# Altium schematic symbol library dungvh03-CERN_Logic.SchLib: 486 symbols (part 3 of 54)
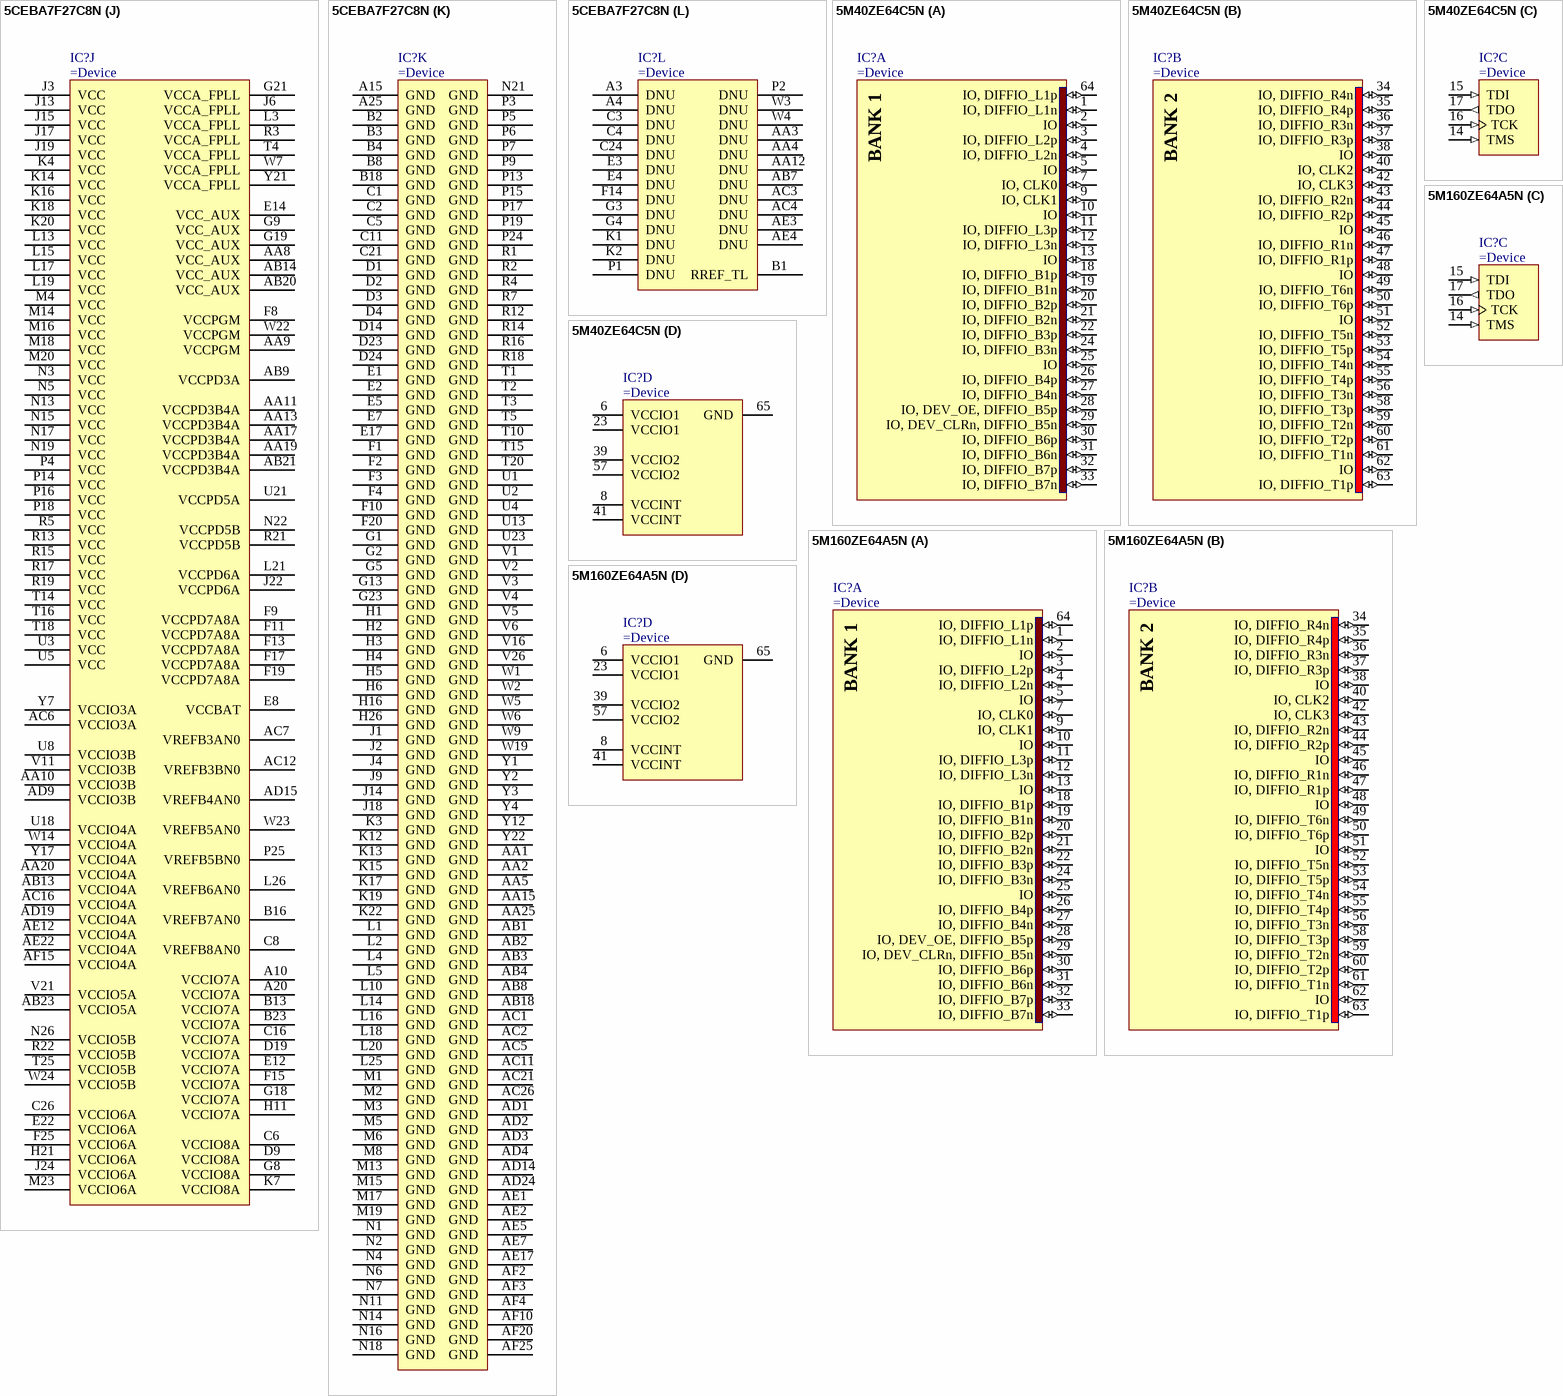
[diagram p263: symbols 5CEBA7F27C8N to 5M160ZE64A5N]

## 5CEBA7F27C8N
designator IC?
Cyclone V E Family FPGA, 1.07 to 1.13 V Supply, 336 I/O Pins, 7 PLLs, 672-Pin FBGA, Speed Grade 8, Commercial Grade, RoHS Compliant
footprint ALTR-FBGA672_A-200 (BGA, 672-Balls, Body 27x27mm, Pitch 1mm)
part A pins: AA6 IO, DATA11, (DIFFIO_TX_B4p, DIFFOUT_B4p) (io), AA7 IO, DATA13, (DIFFIO_TX_B6n, DIFFOUT_B6n, DQ1B) (io), AB6 IO, DATA9, (DIFFIO_TX_B4n, DIFFOUT_B4n, DQ1B) (io), AD6 IO, PR_READY, (DIFFIO_TX_B8n, DIFFOUT_B8n, DQ1B) (io), AD7 IO, (DIFFIO_TX_B8p, DIFFOUT_B8p, DQ1B) (io), P8 IO, PR_ERROR, (DIFFIO_RX_B7p, DIFFOUT_B7p) (io), R8 IO, PR_DONE, (DIFFIO_RX_B7n, DIFFOUT_B7n) (io), R9 IO, CLKUSR, (DIFFIO_RX_B5p, DIFFOUT_B5p, DQ1B) (io), R10 IO, DATA14, (DIFFIO_RX_B5n, DIFFOUT_B5n, DQ1B) (io), T7 IO, DATA6, (DIFFIO_RX_B1n, DIFFOUT_B1n, DQ1B) (io), T8 IO, DATA8, (DIFFIO_RX_B1p, DIFFOUT_B1p, DQ1B) (io), U7 IO, DATA5, (DIFFIO_TX_B2n, DIFFOUT_B2n) (io), V8 IO, DATA7, (DIFFIO_TX_B2p, DIFFOUT_B2p, DQ1B) (io), W8 IO, DATA10, (DIFFIO_RX_B3n, DIFFOUT_B3n, DQSn1B) (io), Y8 IO, DATA15, (DIFFIO_TX_B6p, DIFFOUT_B6p, DQ1B) (io), Y9 IO, DATA12, (DIFFIO_RX_B3p, DIFFOUT_B3p, DQS1B) (io)
part B pins: AB10 IO, (DIFFIO_TX_B28p, DIFFOUT_B28p) (io), AB11 IO, (DIFFIO_RX_B30n, DIFFOUT_B30n, DQ2B) (io), AB12 IO, (DIFFIO_RX_B30p, DIFFOUT_B30p, DQ2B) (io), AC8 IO, (DIFFIO_TX_B29n, DIFFOUT_B29n, DQ2B) (io), AC9 IO, (DIFFIO_TX_B29p, DIFFOUT_B29p, DQ2B) (io), AC10 IO, (DIFFIO_TX_B28n, DIFFOUT_B28n, DQ2B) (io), AD8 IO, (DIFFIO_RX_B34p, DIFFOUT_B34p, DQ3B) (io), AE6 IO, (DIFFIO_TX_B40p, DIFFOUT_B40p, DQ3B) (io), AE8 IO, (DIFFIO_RX_B34n, DIFFOUT_B34n, DQ3B) (io), AE9 IO, (DIFFIO_TX_B36p, DIFFOUT_B36p) (io), AF6 IO, (DIFFIO_TX_B40n, DIFFOUT_B40n, DQ3B) (io), AF7 IO, FPLL_BL_CLKOUT0, FPLL_BL_CLKOUTp, FPLL_BL_FB, (DIFFIO_TX_B37p, DIFFOUT_B37p, DQ3B) (io), AF8 IO, FPLL_BL_CLKOUT1, FPLL_BL_CLKOUTn, (DIFFIO_TX_B37n, DIFFOUT_B37n, DQ3B) (io), AF9 IO, (DIFFIO_TX_B36n, DIFFOUT_B36n, DQ3B) (io), N10 IO, (DIFFIO_RX_B35p, DIFFOUT_B35p, DQS3B) (io), P10 IO, (DIFFIO_RX_B35n, DIFFOUT_B35n, DQSn3B) (io), P11 IO, CLK1p, (DIFFIO_RX_B39p, DIFFOUT_B39p) (io), P12 IO, CLK1n, (DIFFIO_RX_B39n, DIFFOUT_B39n) (io), R11 IO, (DIFFIO_RX_B27p, DIFFOUT_B27p, DQS2B) (io), T9 IO, (DIFFIO_TX_B25p, DIFFOUT_B25p, DQ2B) (io), T11 IO, (DIFFIO_RX_B27n, DIFFOUT_B27n, DQSn2B) (io), T12 IO, CLK0n, FPLL_BL_FBn, (DIFFIO_RX_B31n, DIFFOUT_B31n) (io), T13 IO, CLK0p, FPLL_BL_FBp, (DIFFIO_RX_B31p, DIFFOUT_B31p) (io), U9 IO, (DIFFIO_TX_B25n, DIFFOUT_B25n) (io), U10 IO, (DIFFIO_RX_B38p, DIFFOUT_B38p, DQ3B) (io), U11 IO, (DIFFIO_RX_B38n, DIFFOUT_B38n, DQ3B) (io), V9 IO, (DIFFIO_TX_B33n, DIFFOUT_B33n) (io), V10 IO, (DIFFIO_TX_B33p, DIFFOUT_B33p, DQ3B) (io), W10 IO, (DIFFIO_TX_B32p, DIFFOUT_B32p, DQ2B) (io), W11 IO, (DIFFIO_RX_B26p, DIFFOUT_B26p, DQ2B) (io), Y10 IO, (DIFFIO_TX_B32n, DIFFOUT_B32n, DQ2B) (io), Y11 IO, (DIFFIO_RX_B26n, DIFFOUT_B26n, DQ2B) (io)
part C pins: AA14 IO, (DIFFIO_RX_B42n, DIFFOUT_B42n, DQ4B) (io), AA16 IO, (DIFFIO_RX_B54p, DIFFOUT_B54p, DQ5B, DQ1B) (io), AA18 IO, (DIFFIO_RX_B74n, DIFFOUT_B74n, DQ8B, DQ2B) (io), AA21 IO, (DIFFIO_TX_B80n, DIFFOUT_B80n, DQ8B, DQ2B) (io), AB15 IO, (DIFFIO_RX_B50p, DIFFOUT_B50p, DQ5B, DQ1B) (io), AB16 IO, (DIFFIO_RX_B54n, DIFFOUT_B54n, DQ5B, DQ1B) (io), AB17 IO, (DIFFIO_RX_B62p, DIFFOUT_B62p, DQ6B, DQ1B) (io), AB19 IO, (DIFFIO_TX_B77p, DIFFOUT_B77p, DQ8B, DQ2B) (io), AB22 IO, (DIFFIO_TX_B80p, DIFFOUT_B80p, DQ8B, DQ2B) (io), AC13 IO, (DIFFIO_TX_B49n, DIFFOUT_B49n) (io), AC14 IO, (DIFFIO_TX_B49p, DIFFOUT_B49p, DQ5B, DQ1B) (io), AC15 IO, (DIFFIO_RX_B50n, DIFFOUT_B50n, DQ5B, DQ1B) (io), AC17 IO, (DIFFIO_RX_B62n, DIFFOUT_B62n, DQ6B, DQ1B) (io), AC18 IO, (DIFFIO_TX_B57p, DIFFOUT_B57p, DQ6B, DQ1B) (io), AC19 IO, (DIFFIO_TX_B77n, DIFFOUT_B77n, DQ8B, DQ2B) (io), AC20 IO, (DIFFIO_TX_B65p, DIFFOUT_B65p, DQ7B, DQ2B) (io), AD10 IO, (DIFFIO_TX_B45p, DIFFOUT_B45p, DQ4B) (io), AD11 IO, (DIFFIO_TX_B41p, DIFFOUT_B41p, DQ4B) (io), AD12 IO, (DIFFIO_TX_B44n, DIFFOUT_B44n, DQ4B) (io), AD13 IO, (DIFFIO_TX_B44p, DIFFOUT_B44p) (io), AD16 IO, (DIFFIO_RX_B58n, DIFFOUT_B58n, DQ6B, DQ1B) (io), AD17 IO, (DIFFIO_RX_B58p, DIFFOUT_B58p, DQ6B, DQ1B) (io), AD18 IO, (DIFFIO_TX_B57n, DIFFOUT_B57n) (io), AD20 IO, (DIFFIO_TX_B65n, DIFFOUT_B65n) (io), AD21 IO, (DIFFIO_TX_B68n, DIFFOUT_B68n, DQ7B, DQ2B) (io), AD22 IO, (DIFFIO_TX_B68p, DIFFOUT_B68p) (io), AD23 IO, (DIFFIO_TX_B69p, DIFFOUT_B69p, DQ7B, DQ2B) (io), AD26 IO, (DIFFIO_TX_B76p, DIFFOUT_B76p) (io), AE10 IO, (DIFFIO_TX_B45n, DIFFOUT_B45n, DQ4B) (io), AE11 IO, RZQ_0, (DIFFIO_TX_B41n, DIFFOUT_B41n) (io), AE13 IO, (DIFFIO_TX_B52p, DIFFOUT_B52p) (io), AE14 IO, (DIFFIO_TX_B53p, DIFFOUT_B53p, DQ5B, DQ1B) (io), AE15 IO, (DIFFIO_RX_B66n, DIFFOUT_B66n, DQ7B, DQ2B) (io), AE16 IO, (DIFFIO_RX_B66p, DIFFOUT_B66p, DQ7B, DQ2B) (io), AE18 IO, (DIFFIO_TX_B56p, DIFFOUT_B56p, DQ5B, DQ1B) (io), AE19 IO, (DIFFIO_TX_B60p, DIFFOUT_B60p) (io), AE20 IO, (DIFFIO_TX_B64p, DIFFOUT_B64p, DQ6B, DQ1B) (io), AE21 IO, (DIFFIO_TX_B64n, DIFFOUT_B64n, DQ6B, DQ1B) (io), AE23 IO, (DIFFIO_TX_B69n, DIFFOUT_B69n, DQ7B, DQ2B) (io), AE24 IO, (DIFFIO_TX_B72p, DIFFOUT_B72p, DQ7B, DQ2B) (io), AE25 IO, (DIFFIO_TX_B73p, DIFFOUT_B73p, DQ8B, DQ2B) (io), AE26 IO, (DIFFIO_TX_B76n, DIFFOUT_B76n, DQ8B, DQ2B) (io), AF11 IO, (DIFFIO_TX_B48p, DIFFOUT_B48p, DQ4B) (io), AF12 IO, (DIFFIO_TX_B48n, DIFFOUT_B48n, DQ4B) (io), AF13 IO, (DIFFIO_TX_B52n, DIFFOUT_B52n, DQ5B, DQ1B) (io), AF14 IO, (DIFFIO_TX_B53n, DIFFOUT_B53n, DQ5B, DQ1B) (io), AF16 IO, (DIFFIO_RX_B70n, DIFFOUT_B70n, DQ7B, DQ2B) (io), AF17 IO, (DIFFIO_RX_B70p, DIFFOUT_B70p, DQ7B, DQ2B) (io), AF18 IO, (DIFFIO_TX_B56n, DIFFOUT_B56n, DQ5B, DQ1B) (io), AF19 IO, (DIFFIO_TX_B60n, DIFFOUT_B60n, DQ6B, DQ1B) (io), AF21 IO, (DIFFIO_TX_B61p, DIFFOUT_B61p, DQ6B, DQ1B) (io), AF22 IO, (DIFFIO_TX_B61n, DIFFOUT_B61n, DQ6B, DQ1B) (io), AF23 IO, (DIFFIO_TX_B72n, DIFFOUT_B72n, DQ7B, DQ2B) (io), AF24 IO, (DIFFIO_TX_B73n, DIFFOUT_B73n) (io), T17 IO, (DIFFIO_RX_B63p, DIFFOUT_B63p) (io), U12 IO, CLK2p, (DIFFIO_RX_B47p, DIFFOUT_B47p) (io), U14 IO, (DIFFIO_RX_B51p, DIFFOUT_B51p, DQS5B, DQ1B) (io), U15 IO, (DIFFIO_RX_B71p, DIFFOUT_B71p) (io), U16 IO, (DIFFIO_RX_B71n, DIFFOUT_B71n) (io), U17 IO, (DIFFIO_RX_B63n, DIFFOUT_B63n) (io), V12 IO, CLK2n, (DIFFIO_RX_B47n, DIFFOUT_B47n) (io), V13 IO, (DIFFIO_RX_B43p, DIFFOUT_B43p, DQS4B) (io), V14 IO, (DIFFIO_RX_B51n, DIFFOUT_B51n, DQSn5B, DQ1B) (io), V15 IO, (DIFFIO_RX_B59p, DIFFOUT_B59p, DQS6B, DQS1B) (io), V17 IO, (DIFFIO_RX_B75n, DIFFOUT_B75n, DQSn8B, DQSn2B) (io), V18 IO, (DIFFIO_RX_B75p, DIFFOUT_B75p, DQS8B, DQS2B) (io), V19 IO, (DIFFIO_RX_B79p, DIFFOUT_B79p) (io), W12 IO, (DIFFIO_RX_B46p, DIFFOUT_B46p, DQ4B) (io), W13 IO, (DIFFIO_RX_B43n, DIFFOUT_B43n, DQSn4B) (io), W15 IO, (DIFFIO_RX_B59n, DIFFOUT_B59n, DQSn6B, DQSn1B) (io), W16 IO, (DIFFIO_RX_B67p, DIFFOUT_B67p, DQS7B, DQ2B) (io), W17 IO, (DIFFIO_RX_B67n, DIFFOUT_B67n, DQSn7B, DQ2B) (io), W18 IO, (DIFFIO_RX_B79n, DIFFOUT_B79n) (io), Y13 IO, (DIFFIO_RX_B46n, DIFFOUT_B46n, DQ4B) (io), Y14 IO, (DIFFIO_RX_B42p, DIFFOUT_B42p, DQ4B) (io), Y15 IO, CLK3p, (DIFFIO_RX_B55p, DIFFOUT_B55p) (io), Y16 IO, CLK3n, (DIFFIO_RX_B55n, DIFFOUT_B55n) (io), Y18 IO, (DIFFIO_RX_B74p, DIFFOUT_B74p, DQ8B, DQ2B) (io), Y19 IO, (DIFFIO_RX_B78n, DIFFOUT_B78n, DQ8B, DQ2B) (io), Y20 IO, (DIFFIO_RX_B78p, DIFFOUT_B78p, DQ8B, DQ2B) (io)
part D pins: AA22 IO, nCEO, (DIFFIO_TX_R3p, DIFFOUT_R3p, DQ1R) (io), AA23 IO, CvP_CONFDONE, (DIFFIO_TX_R3n, DIFFOUT_R3n, DQ1R) (io), AB24 IO, DEV_CLRn, (DIFFIO_TX_R5n, DIFFOUT_R5n, DQ1R) (io), AC22 IO, RZQ_1, (DIFFIO_TX_R1p, DIFFOUT_R1p, DQ1R) (io), AC23 IO, PR_REQUEST, (DIFFIO_TX_R1n, DIFFOUT_R1n, DQ1R) (io), AC24 IO, DEV_OE, (DIFFIO_TX_R5p, DIFFOUT_R5p) (io), T19 IO, (DIFFIO_RX_R8p, DIFFOUT_R8p, DQ1R) (io), U19 IO, INIT_DONE, (DIFFIO_RX_R2p, DIFFOUT_R2p) (io), U20 IO, (DIFFIO_RX_R8n, DIFFOUT_R8n, DQ1R) (io), U22 IO, nPERSTL1, (DIFFIO_RX_R6n, DIFFOUT_R6n, DQSn1R) (io), V20 IO, CRC_ERROR, (DIFFIO_RX_R2n, DIFFOUT_R2n) (io), V22 IO, nPERSTL0, (DIFFIO_RX_R6p, DIFFOUT_R6p, DQS1R) (io), W20 IO, (DIFFIO_RX_R4p, DIFFOUT_R4p, DQ1R) (io), W21 IO, (DIFFIO_RX_R4n, DIFFOUT_R4n, DQ1R) (io), Y23 IO, (DIFFIO_TX_R7p, DIFFOUT_R7p, DQ1R) (io), Y24 IO, (DIFFIO_TX_R7n, DIFFOUT_R7n) (io)
part E pins: AA24 IO, (DIFFIO_TX_R28p, DIFFOUT_R28p, DQ2R) (io), AA26 IO, (DIFFIO_TX_R34n, DIFFOUT_R34n, DQ3R) (io), AB25 IO, (DIFFIO_TX_R28n, DIFFOUT_R28n, DQ2R) (io), AB26 IO, (DIFFIO_TX_R34p, DIFFOUT_R34p, DQ3R) (io), AC25 IO, (DIFFIO_TX_R30n, DIFFOUT_R30n, DQ2R) (io), AD25 IO, (DIFFIO_TX_R30p, DIFFOUT_R30p) (io), N25 IO, (DIFFIO_RX_R39p, DIFFOUT_R39p, DQ3R) (io), P20 IO, CLK6n, (DIFFIO_RX_R33n, DIFFOUT_R33n) (io), P21 IO, (DIFFIO_RX_R37p, DIFFOUT_R37p, DQS3R) (io), P22 IO, (DIFFIO_RX_R37n, DIFFOUT_R37n, DQSn3R) (io), P23 IO, (DIFFIO_RX_R29n, DIFFOUT_R29n, DQSn2R) (io), P26 IO, (DIFFIO_RX_R39n, DIFFOUT_R39n, DQ3R) (io), R20 IO, CLK6p, (DIFFIO_RX_R33p, DIFFOUT_R33p) (io), R23 IO, (DIFFIO_RX_R29p, DIFFOUT_R29p, DQS2R) (io), R24 IO, (DIFFIO_RX_R31p, DIFFOUT_R31p, DQ2R) (io), R25 IO, (DIFFIO_RX_R31n, DIFFOUT_R31n, DQ2R) (io), R26 IO, (DIFFIO_RX_R35n, DIFFOUT_R35n, DQ3R) (io), T21 IO, CLK7p, FPLL_BR_FBp, (DIFFIO_RX_R25p, DIFFOUT_R25p) (io), T22 IO, CLK7n, FPLL_BR_FBn, (DIFFIO_RX_R25n, DIFFOUT_R25n) (io), T23 IO, (DIFFIO_RX_R27p, DIFFOUT_R27p, DQ2R) (io), T24 IO, (DIFFIO_RX_R27n, DIFFOUT_R27n, DQ2R) (io), T26 IO, (DIFFIO_RX_R35p, DIFFOUT_R35p, DQ3R) (io), U24 IO, (DIFFIO_TX_R32p, DIFFOUT_R32p, DQ2R) (io), U25 IO, (DIFFIO_TX_R40p, DIFFOUT_R40p, DQ3R) (io), U26 IO, (DIFFIO_TX_R40n, DIFFOUT_R40n) (io), V23 IO, (DIFFIO_TX_R26p, DIFFOUT_R26p, DQ2R) (io), V24 IO, (DIFFIO_TX_R26n, DIFFOUT_R26n, DQ2R) (io), V25 IO, (DIFFIO_TX_R32n, DIFFOUT_R32n) (io), W25 IO, (DIFFIO_TX_R38p, DIFFOUT_R38p) (io), W26 IO, (DIFFIO_TX_R38n, DIFFOUT_R38n, DQ3R) (io), Y25 IO, FPLL_BR_CLKOUT0, FPLL_BR_CLKOUTp, FPLL_BR_FB, (DIFFIO_TX_R36p, DIFFOUT_R36p, DQ3R) (io), Y26 IO, FPLL_BR_CLKOUT1, FPLL_BR_CLKOUTn, (DIFFIO_TX_R36n, DIFFOUT_R36n, DQ3R) (io)
part F pins: B25 IO, (DIFFIO_TX_R66p, DIFFOUT_R66p, DQ6R) (io), B26 IO, (DIFFIO_TX_R66n, DIFFOUT_R66n, DQ6R) (io), C25 IO, (DIFFIO_TX_R68n, DIFFOUT_R68n, DQ6R) (io), D22 IO, (DIFFIO_TX_R70p, DIFFOUT_R70p) (io), D25 IO, (DIFFIO_TX_R68p, DIFFOUT_R68p, DQ6R) (io), D26 IO, (DIFFIO_TX_R48p, DIFFOUT_R48p, DQ4R) (io), E21 IO, (DIFFIO_TX_R72p, DIFFOUT_R72p, DQ6R) (io), E23 IO, (DIFFIO_TX_R70n, DIFFOUT_R70n, DQ6R) (io), E24 IO, (DIFFIO_TX_R50p, DIFFOUT_R50p, DQ5R) (io), E25 IO, (DIFFIO_TX_R50n, DIFFOUT_R50n, DQ5R) (io), E26 IO, (DIFFIO_TX_R48n, DIFFOUT_R48n) (io), F21 IO, (DIFFIO_RX_R71n, DIFFOUT_R71n, DQ6R) (io), F22 IO, (DIFFIO_TX_R72n, DIFFOUT_R72n) (io), F23 IO, (DIFFIO_TX_R56p, DIFFOUT_R56p, DQ5R) (io), F24 IO, (DIFFIO_TX_R52p, DIFFOUT_R52p, DQ5R) (io), F26 IO, FPLL_TR_CLKOUT0, FPLL_TR_CLKOUTp, FPLL_TR_FB, (DIFFIO_TX_R44p, DIFFOUT_R44p, DQ4R) (io), G20 IO, (DIFFIO_RX_R71p, DIFFOUT_R71p, DQ6R) (io), G22 IO, (DIFFIO_TX_R56n, DIFFOUT_R56n) (io), G24 IO, (DIFFIO_TX_R52n, DIFFOUT_R52n, DQ5R) (io), G25 IO, (DIFFIO_TX_R46p, DIFFOUT_R46p) (io), G26 IO, FPLL_TR_CLKOUT1, FPLL_TR_CLKOUTn, (DIFFIO_TX_R44n, DIFFOUT_R44n, DQ4R) (io), H19 IO, (DIFFIO_RX_R67p, DIFFOUT_R67p, DQ6R) (io), H20 IO, (DIFFIO_RX_R67n, DIFFOUT_R67n, DQ6R) (io), H22 IO, (DIFFIO_RX_R55p, DIFFOUT_R55p, DQ5R) (io), H23 IO, (DIFFIO_TX_R54p, DIFFOUT_R54p) (io), H24 IO, (DIFFIO_TX_R54n, DIFFOUT_R54n, DQ5R) (io), H25 IO, (DIFFIO_TX_R46n, DIFFOUT_R46n, DQ4R) (io), J20 IO, (DIFFIO_RX_R69p, DIFFOUT_R69p, DQS6R) (io), J21 IO, (DIFFIO_RX_R69n, DIFFOUT_R69n, DQSn6R) (io), J23 IO, (DIFFIO_RX_R55n, DIFFOUT_R55n, DQ5R) (io), J25 IO, (DIFFIO_TX_R42p, DIFFOUT_R42p, DQ4R) (io), J26 IO, (DIFFIO_TX_R42n, DIFFOUT_R42n, DQ4R) (io), K21 IO, (DIFFIO_RX_R65n, DIFFOUT_R65n) (io), K23 IO, (DIFFIO_RX_R51n, DIFFOUT_R51n, DQ5R) (io), K24 IO, (DIFFIO_RX_R51p, DIFFOUT_R51p, DQ5R) (io), K25 IO, CLK4p, FPLL_TR_FBp, (DIFFIO_RX_R49p, DIFFOUT_R49p) (io), K26 IO, CLK4n, FPLL_TR_FBn, (DIFFIO_RX_R49n, DIFFOUT_R49n) (io), L22 IO, (DIFFIO_RX_R65p, DIFFOUT_R65p) (io), L23 IO, (DIFFIO_RX_R53p, DIFFOUT_R53p, DQS5R) (io), L24 IO, (DIFFIO_RX_R53n, DIFFOUT_R53n, DQSn5R) (io), M21 IO, CLK5n, (DIFFIO_RX_R41n, DIFFOUT_R41n) (io), M22 IO, (DIFFIO_RX_R45n, DIFFOUT_R45n, DQSn4R) (io), M24 IO, (DIFFIO_RX_R43n, DIFFOUT_R43n, DQ4R) (io), M25 IO, (DIFFIO_RX_R47p, DIFFOUT_R47p, DQ4R) (io), M26 IO, (DIFFIO_RX_R47n, DIFFOUT_R47n, DQ4R) (io), N20 IO, CLK5p, (DIFFIO_RX_R41p, DIFFOUT_R41p) (io), N23 IO, (DIFFIO_RX_R45p, DIFFOUT_R45p, DQS4R) (io), N24 IO, (DIFFIO_RX_R43p, DIFFOUT_R43p, DQ4R) (io)
part G pins: A8 IO, (DIFFIO_TX_T24p, DIFFOUT_T24p, DQ3T, DQ2T) (io), A9 IO, (DIFFIO_TX_T24n, DIFFOUT_T24n) (io), A11 IO, (DIFFIO_TX_T30n, DIFFOUT_T30n, DQ4T, DQ2T) (io), A12 IO, (DIFFIO_TX_T36p, DIFFOUT_T36p, DQ5T) (io), A13 IO, (DIFFIO_TX_T34n, DIFFOUT_T34n, DQ5T) (io), A14 IO, (DIFFIO_TX_T20p, DIFFOUT_T20p, DQ3T, DQ2T) (io), A16 IO, (DIFFIO_TX_T16n, DIFFOUT_T16n) (io), A17 IO, (DIFFIO_TX_T16p, DIFFOUT_T16p, DQ2T, DQ1T) (io), A18 IO, (DIFFIO_TX_T14n, DIFFOUT_T14n, DQ2T, DQ1T) (io), A19 IO, (DIFFIO_TX_T14p, DIFFOUT_T14p) (io), A21 IO, (DIFFIO_TX_T6n, DIFFOUT_T6n, DQ1T, DQ1T) (io), A22 IO, (DIFFIO_TX_T4n, DIFFOUT_T4n, DQ1T, DQ1T) (io), A23 IO, (DIFFIO_TX_T4p, DIFFOUT_T4p, DQ1T, DQ1T) (io), A24 IO, (DIFFIO_RX_T3n, DIFFOUT_T3n, DQ1T, DQ1T) (io), B9 IO, (DIFFIO_TX_T26n, DIFFOUT_T26n, DQ4T, DQ2T) (io), B10 IO, (DIFFIO_TX_T30p, DIFFOUT_T30p) (io), B11 IO, (DIFFIO_TX_T36n, DIFFOUT_T36n, DQ5T) (io), B12 IO, (DIFFIO_TX_T34p, DIFFOUT_T34p, DQ5T) (io), B14 IO, (DIFFIO_TX_T20n, DIFFOUT_T20n, DQ3T, DQ2T) (io), B15 IO, (DIFFIO_TX_T22p, DIFFOUT_T22p) (io), B17 IO, (DIFFIO_TX_T18n, DIFFOUT_T18n, DQ3T, DQ2T) (io), B19 IO, (DIFFIO_TX_T10n, DIFFOUT_T10n, DQ2T, DQ1T) (io), B20 IO, (DIFFIO_TX_T8n, DIFFOUT_T8n) (io), B21 IO, (DIFFIO_TX_T8p, DIFFOUT_T8p, DQ1T, DQ1T) (io), B22 IO, (DIFFIO_TX_T6p, DIFFOUT_T6p) (io), B24 IO, (DIFFIO_RX_T3p, DIFFOUT_T3p, DQ1T, DQ1T) (io), C9 IO, (DIFFIO_TX_T26p, DIFFOUT_T26p, DQ4T, DQ2T) (io), C10 IO, (DIFFIO_TX_T28n, DIFFOUT_T28n, DQ4T, DQ2T) (io), C12 IO, (DIFFIO_TX_T38n, DIFFOUT_T38n, DQ5T) (io), C13 IO, (DIFFIO_TX_T38p, DIFFOUT_T38p) (io), C14 IO, (DIFFIO_RX_T23p, DIFFOUT_T23p, DQ3T, DQ2T) (io), C15 IO, (DIFFIO_TX_T22n, DIFFOUT_T22n, DQ3T, DQ2T) (io), C17 IO, (DIFFIO_TX_T18p, DIFFOUT_T18p, DQ3T, DQ2T) (io), C18 IO, (DIFFIO_TX_T12n, DIFFOUT_T12n, DQ2T, DQ1T) (io), C19 IO, (DIFFIO_TX_T12p, DIFFOUT_T12p, DQ2T, DQ1T) (io), C20 IO, (DIFFIO_TX_T10p, DIFFOUT_T10p, DQ2T, DQ1T) (io), C22 IO, (DIFFIO_TX_T2n, DIFFOUT_T2n, DQ1T, DQ1T) (io), C23 IO, (DIFFIO_TX_T2p, DIFFOUT_T2p, DQ1T, DQ1T) (io), D10 IO, (DIFFIO_TX_T28p, DIFFOUT_T28p, DQ4T, DQ2T) (io), D11 IO, (DIFFIO_TX_T40p, DIFFOUT_T40p, DQ5T) (io), D12 IO, RZQ_2, (DIFFIO_TX_T40n, DIFFOUT_T40n) (io), D13 IO, (DIFFIO_RX_T39n, DIFFOUT_T39n, DQ5T) (io), D15 IO, (DIFFIO_RX_T23n, DIFFOUT_T23n, DQ3T, DQ2T) (io), D16 IO, (DIFFIO_RX_T27n, DIFFOUT_T27n, DQ4T, DQ2T) (io), D17 IO, (DIFFIO_RX_T15n, DIFFOUT_T15n, DQ2T, DQ1T) (io), D18 IO, (DIFFIO_RX_T15p, DIFFOUT_T15p, DQ2T, DQ1T) (io), D20 IO, (DIFFIO_RX_T7n, DIFFOUT_T7n, DQ1T, DQ1T) (io), D21 IO, (DIFFIO_RX_T7p, DIFFOUT_T7p, DQ1T, DQ1T) (io), E10 IO, (DIFFIO_TX_T32p, DIFFOUT_T32p, DQ4T, DQ2T) (io), E11 IO, (DIFFIO_TX_T32n, DIFFOUT_T32n) (io), E13 IO, (DIFFIO_RX_T39p, DIFFOUT_T39p, DQ5T) (io), E15 IO, (DIFFIO_RX_T31n, DIFFOUT_T31n, DQ4T, DQ2T) (io), E16 IO, (DIFFIO_RX_T27p, DIFFOUT_T27p, DQ4T, DQ2T) (io), E18 IO, (DIFFIO_RX_T19p, DIFFOUT_T19p, DQ3T, DQ2T) (io), E19 IO, (DIFFIO_RX_T11n, DIFFOUT_T11n, DQ2T, DQ1T) (io), E20 IO, (DIFFIO_RX_T11p, DIFFOUT_T11p, DQ2T, DQ1T) (io), F12 IO, (DIFFIO_RX_T35n, DIFFOUT_T35n, DQ5T) (io), F16 IO, (DIFFIO_RX_T31p, DIFFOUT_T31p, DQ4T, DQ2T) (io), F18 IO, (DIFFIO_RX_T19n, DIFFOUT_T19n, DQ3T, DQ2T) (io), G11 IO, CLK10n, (DIFFIO_RX_T33n, DIFFOUT_T33n) (io), G12 IO, (DIFFIO_RX_T35p, DIFFOUT_T35p, DQ5T) (io), G14 IO, CLK11n, (DIFFIO_RX_T25n, DIFFOUT_T25n) (io), G15 IO, CLK11p, (DIFFIO_RX_T25p, DIFFOUT_T25p) (io), G16 IO, (DIFFIO_RX_T9p, DIFFOUT_T9p) (io), G17 IO, (DIFFIO_RX_T9n, DIFFOUT_T9n) (io), H12 IO, CLK10p, (DIFFIO_RX_T33p, DIFFOUT_T33p) (io), H13 IO, (DIFFIO_RX_T17n, DIFFOUT_T17n) (io), H14 IO, (DIFFIO_RX_T17p, DIFFOUT_T17p) (io), H15 IO, (DIFFIO_RX_T1p, DIFFOUT_T1p) (io), H17 IO, (DIFFIO_RX_T5n, DIFFOUT_T5n, DQSn1T, DQSn1T) (io), H18 IO, (DIFFIO_RX_T5p, DIFFOUT_T5p, DQS1T, DQS1T) (io), J11 IO, (DIFFIO_RX_T13n, DIFFOUT_T13n, DQSn2T, DQ1T) (io), J12 IO, (DIFFIO_RX_T13p, DIFFOUT_T13p, DQS2T, DQ1T) (io), J16 IO, (DIFFIO_RX_T1n, DIFFOUT_T1n) (io), K11 IO, (DIFFIO_RX_T21n, DIFFOUT_T21n, DQSn3T, DQSn2T) (io), L11 IO, (DIFFIO_RX_T37n, DIFFOUT_T37n, DQSn5T) (io), L12 IO, (DIFFIO_RX_T21p, DIFFOUT_T21p, DQS3T, DQS2T) (io), M11 IO, (DIFFIO_RX_T37p, DIFFOUT_T37p, DQS5T) (io), M12 IO, (DIFFIO_RX_T29n, DIFFOUT_T29n, DQSn4T, DQ2T) (io), N12 IO, (DIFFIO_RX_T29p, DIFFOUT_T29p, DQS4T, DQ2T) (io)
part H pins: A5 IO, (DIFFIO_TX_T42p, DIFFOUT_T42p, DQ6T) (io), A7 IO, FPLL_TL_CLKOUT0, FPLL_TL_CLKOUTp, FPLL_TL_FB, (DIFFIO_TX_T44p, DIFFOUT_T44p, DQ6T) (io), B6 IO, (DIFFIO_TX_T42n, DIFFOUT_T42n, DQ6T) (io), B7 IO, FPLL_TL_CLKOUT1, FPLL_TL_CLKOUTn, (DIFFIO_TX_T44n, DIFFOUT_T44n, DQ6T) (io), C7 IO, (DIFFIO_TX_T48n, DIFFOUT_T48n) (io), D6 IO, (DIFFIO_TX_T46p, DIFFOUT_T46p) (io), D7 IO, (DIFFIO_TX_T48p, DIFFOUT_T48p, DQ6T) (io), D8 IO, (DIFFIO_TX_T56p, DIFFOUT_T56p, DQ7T) (io), E6 IO, (DIFFIO_TX_T46n, DIFFOUT_T46n, DQ6T) (io), E9 IO, (DIFFIO_TX_T56n, DIFFOUT_T56n) (io), F6 IO, (DIFFIO_TX_T50p, DIFFOUT_T50p, DQ7T) (io), F7 IO, (DIFFIO_TX_T52n, DIFFOUT_T52n, DQ7T) (io), G6 IO, (DIFFIO_TX_T50n, DIFFOUT_T50n, DQ7T) (io), G7 IO, (DIFFIO_TX_T52p, DIFFOUT_T52p, DQ7T) (io), G10 IO, (DIFFIO_RX_T47n, DIFFOUT_T47n, DQ6T) (io), H7 IO, (DIFFIO_TX_T54p, DIFFOUT_T54p) (io), H8 IO, (DIFFIO_RX_T43p, DIFFOUT_T43p, DQ6T) (io), H9 IO, (DIFFIO_RX_T43n, DIFFOUT_T43n, DQ6T) (io), H10 IO, (DIFFIO_RX_T47p, DIFFOUT_T47p, DQ6T) (io), J7 IO, (DIFFIO_TX_T54n, DIFFOUT_T54n, DQ7T) (io), J8 IO, (DIFFIO_RX_T51n, DIFFOUT_T51n, DQ7T) (io), J10 IO, (DIFFIO_RX_T53n, DIFFOUT_T53n, DQSn7T) (io), K6 IO, (DIFFIO_RX_T55n, DIFFOUT_T55n, DQ7T) (io), K8 IO, (DIFFIO_RX_T51p, DIFFOUT_T51p, DQ7T) (io), K9 IO, CLK8n, FPLL_TL_FBn, (DIFFIO_RX_T49n, DIFFOUT_T49n) (io), K10 IO, (DIFFIO_RX_T53p, DIFFOUT_T53p, DQS7T) (io), L7 IO, (DIFFIO_RX_T55p, DIFFOUT_T55p, DQ7T) (io), L8 IO, CLK8p, FPLL_TL_FBp, (DIFFIO_RX_T49p, DIFFOUT_T49p) (io), L9 IO, (DIFFIO_RX_T45n, DIFFOUT_T45n, DQSn6T) (io), M9 IO, (DIFFIO_RX_T45p, DIFFOUT_T45p, DQS6T) (io), M10 IO, CLK9n, (DIFFIO_RX_T41n, DIFFOUT_T41n) (io), N9 IO, CLK9p, (DIFFIO_RX_T41p, DIFFOUT_T41p) (io)
part I pins: A2 MSEL2 (in), A6 CONF_DONE (io), AB5 AS_DATA2, DATA2 (io), AD5 AS_DATA1, DATA1 (io), AF5 AS_DATA0, ASDO, DATA0 (io), B5 nSTATUS (io), D5 nCE (in), F5 nCONFIG (in), J5 MSEL4 (in), K5 MSEL3 (in), L6 MSEL1 (in), M7 MSEL0 (in), N8 DCLK (io), R6 TMS (in), T6 TDI (in), U6 AS_DATA3, DATA3 (io), V7 TDO (out), Y5 TCK (in), Y6 nCSO, DATA4 (out)
part J pins: A10 VCCIO7A (power), A20 VCCIO7A (power), AA8 VCC_AUX (power), AA9 VCCPGM (power), AA10 VCCIO3B (power), AA11 VCCPD3B4A (power), AA13 VCCPD3B4A (power), AA17 VCCPD3B4A (power), AA19 VCCPD3B4A (power), AA20 VCCIO4A (power), AB9 VCCPD3A (power), AB13 VCCIO4A (power), AB14 VCC_AUX (power), AB20 VCC_AUX (power), AB21 VCCPD3B4A (power), AB23 VCCIO5A (power), AC6 VCCIO3A (power), AC7 VREFB3AN0 (power), AC12 VREFB3BN0 (power), AC16 VCCIO4A (power), AD9 VCCIO3B (power), AD15 VREFB4AN0 (power), AD19 VCCIO4A (power), AE12 VCCIO4A (power), AE22 VCCIO4A (power), AF15 VCCIO4A (power), B13 VCCIO7A (power), B16 VREFB7AN0 (power), B23 VCCIO7A (power), C6 VCCIO8A (power), C8 VREFB8AN0 (power), C16 VCCIO7A (power), C26 VCCIO6A (power), D9 VCCIO8A (power), D19 VCCIO7A (power), E8 VCCBAT (power), E12 VCCIO7A (power), E14 VCC_AUX (power), E22 VCCIO6A (power), F8 VCCPGM (power), F9 VCCPD7A8A (power), F11 VCCPD7A8A (power), F13 VCCPD7A8A (power), F15 VCCIO7A (power), F17 VCCPD7A8A (power), F19 VCCPD7A8A (power), F25 VCCIO6A (power), G8 VCCIO8A (power), G9 VCC_AUX (power), G18 VCCIO7A (power), G19 VCC_AUX (power), G21 VCCA_FPLL (power), H11 VCCIO7A (power), H21 VCCIO6A (power), J3 VCC (power), J6 VCCA_FPLL (power), J13 VCC (power), J15 VCC (power), J17 VCC (power), J19 VCC (power), J22 VCCPD6A (power), J24 VCCIO6A (power), K4 VCC (power), K7 VCCIO8A (power), K14 VCC (power), K16 VCC (power), K18 VCC (power), K20 VCC (power), L3 VCCA_FPLL (power), L13 VCC (power), L15 VCC (power), L17 VCC (power), L19 VCC (power), L21 VCCPD6A (power), L26 VREFB6AN0 (power), M4 VCC (power), M14 VCC (power), M16 VCC (power), M18 VCC (power), M20 VCC (power), M23 VCCIO6A (power), N3 VCC (power), N5 VCC (power), N13 VCC (power), N15 VCC (power), N17 VCC (power), N19 VCC (power), N22 VCCPD5B (power), N26 VCCIO5B (power), P4 VCC (power), P14 VCC (power), P16 VCC (power), P18 VCC (power), P25 VREFB5BN0 (power), R3 VCCA_FPLL (power), R5 VCC (power), R13 VCC (power), R15 VCC (power), R17 VCC (power), R19 VCC (power), R21 VCCPD5B (power), R22 VCCIO5B (power), T4 VCCA_FPLL (power), T14 VCC (power), T16 VCC (power), T18 VCC (power), T25 VCCIO5B (power), U3 VCC (power), U5 VCC (power), U8 VCCIO3B (power), U18 VCCIO4A (power), U21 VCCPD5A (power), V11 VCCIO3B (power), V21 VCCIO5A (power), W7 VCCA_FPLL (power), W14 VCCIO4A (power), W22 VCCPGM (power), W23 VREFB5AN0 (power), W24 VCCIO5B (power), Y7 VCCIO3A (power), Y17 VCCIO4A (power), Y21 VCCA_FPLL (power)
part K pins: A15 GND (power), A25 GND (power), AA1 GND (power), AA2 GND (power), AA5 GND (power), AA15 GND (power), AA25 GND (power), AB1 GND (power), AB2 GND (power), AB3 GND (power), AB4 GND (power), AB8 GND (power), AB18 GND (power), AC1 GND (power), AC2 GND (power), AC5 GND (power), AC11 GND (power), AC21 GND (power), AC26 GND (power), AD1 GND (power), AD2 GND (power), AD3 GND (power), AD4 GND (power), AD14 GND (power), AD24 GND (power), AE1 GND (power), AE2 GND (power), AE5 GND (power), AE7 GND (power), AE17 GND (power), AF2 GND (power), AF3 GND (power), AF4 GND (power), AF10 GND (power), AF20 GND (power), AF25 GND (power), B2 GND (power), B3 GND (power), B4 GND (power), B8 GND (power), B18 GND (power), C1 GND (power), C2 GND (power), C5 GND (power), C11 GND (power), C21 GND (power), D1 GND (power), D2 GND (power), D3 GND (power), D4 GND (power), D14 GND (power), D23 GND (power), D24 GND (power), E1 GND (power), E2 GND (power), E5 GND (power), E7 GND (power), E17 GND (power), F1 GND (power), F2 GND (power), F3 GND (power), F4 GND (power), F10 GND (power), F20 GND (power), G1 GND (power), G2 GND (power), G5 GND (power), G13 GND (power), G23 GND (power), H1 GND (power), H2 GND (power), H3 GND (power), H4 GND (power), H5 GND (power), H6 GND (power), H16 GND (power), H26 GND (power), J1 GND (power), J2 GND (power), J4 GND (power), J9 GND (power), J14 GND (power), J18 GND (power), K3 GND (power), K12 GND (power), K13 GND (power), K15 GND (power), K17 GND (power), K19 GND (power), K22 GND (power), L1 GND (power), L2 GND (power), L4 GND (power), L5 GND (power), L10 GND (power), L14 GND (power), L16 GND (power), L18 GND (power), L20 GND (power), L25 GND (power), M1 GND (power), M2 GND (power), M3 GND (power), M5 GND (power), M6 GND (power), M8 GND (power), M13 GND (power), M15 GND (power), M17 GND (power), M19 GND (power), N1 GND (power), N2 GND (power), N4 GND (power), N6 GND (power), N7 GND (power), N11 GND (power), N14 GND (power), N16 GND (power), N18 GND (power), N21 GND (power), P3 GND (power), P5 GND (power), P6 GND (power), P7 GND (power), P9 GND (power), P13 GND (power), P15 GND (power), P17 GND (power), P19 GND (power), P24 GND (power), R1 GND (power), R2 GND (power), R4 GND (power), R7 GND (power), R12 GND (power), R14 GND (power), R16 GND (power), R18 GND (power), T1 GND (power), T2 GND (power), T3 GND (power), T5 GND (power), T10 GND (power), T15 GND (power), T20 GND (power), U1 GND (power), U2 GND (power), U4 GND (power), U13 GND (power), U23 GND (power), V1 GND (power), V2 GND (power), V3 GND (power), V4 GND (power), V5 GND (power), V6 GND (power), V16 GND (power), V26 GND (power), W1 GND (power), W2 GND (power), W5 GND (power), W6 GND (power), W9 GND (power), W19 GND (power), Y1 GND (power), Y2 GND (power), Y3 GND (power), Y4 GND (power), Y12 GND (power), Y22 GND (power)
part L pins: A3 DNU, A4 DNU, AA3 DNU, AA4 DNU, AA12 DNU, AB7 DNU, AC3 DNU, AC4 DNU, AE3 DNU, AE4 DNU, B1 RREF_TL, C3 DNU, C4 DNU, C24 DNU, E3 DNU, E4 DNU, F14 DNU, G3 DNU, G4 DNU, K1 DNU, K2 DNU, P1 DNU, P2 DNU, W3 DNU, W4 DNU
part A text: BANK 3A
part B text: BANK 3B
part C text: BANK 4A
part D text: BANK 5A
part E text: BANK 5B
part F text: BANK 6A
part G text: BANK 7A
part H text: BANK 8A

## 5M40ZE64C5N
designator IC?
MAX V 1.8V CPLD, 54 IOs, 40 Logic Elements, 64-Pin EQFP, Commercial Temperature, Speed Grade 5, Pb-Free
part A pins: 1 IO, DIFFIO_L1n (io), 2 IO (io), 3 IO, DIFFIO_L2p (io), 4 IO, DIFFIO_L2n (io), 5 IO (io), 7 IO, CLK0 (io), 9 IO, CLK1 (io), 10 IO (io), 11 IO, DIFFIO_L3p (io), 12 IO, DIFFIO_L3n (io), 13 IO (io), 18 IO, DIFFIO_B1p (io), 19 IO, DIFFIO_B1n (io), 20 IO, DIFFIO_B2p (io), 21 IO, DIFFIO_B2n (io), 22 IO, DIFFIO_B3p (io), 24 IO, DIFFIO_B3n (io), 25 IO (io), 26 IO, DIFFIO_B4p (io), 27 IO, DIFFIO_B4n (io), 28 IO, DEV_OE, DIFFIO_B5p (io), 29 IO, DEV_CLRn, DIFFIO_B5n (io), 30 IO, DIFFIO_B6p (io), 31 IO, DIFFIO_B6n (io), 32 IO, DIFFIO_B7p (io), 33 IO, DIFFIO_B7n (io), 64 IO, DIFFIO_L1p (io)
part B pins: 34 IO, DIFFIO_R4n (io), 35 IO, DIFFIO_R4p (io), 36 IO, DIFFIO_R3n (io), 37 IO, DIFFIO_R3p (io), 38 IO (io), 40 IO, CLK2 (io), 42 IO, CLK3 (io), 43 IO, DIFFIO_R2n (io), 44 IO, DIFFIO_R2p (io), 45 IO (io), 46 IO, DIFFIO_R1n (io), 47 IO, DIFFIO_R1p (io), 48 IO (io), 49 IO, DIFFIO_T6n (io), 50 IO, DIFFIO_T6p (io), 51 IO (io), 52 IO, DIFFIO_T5n (io), 53 IO, DIFFIO_T5p (io), 54 IO, DIFFIO_T4n (io), 55 IO, DIFFIO_T4p (io), 56 IO, DIFFIO_T3n (io), 58 IO, DIFFIO_T3p (io), 59 IO, DIFFIO_T2n (io), 60 IO, DIFFIO_T2p (io), 61 IO, DIFFIO_T1n (io), 62 IO (io), 63 IO, DIFFIO_T1p (io)
part C pins: 14 TMS (in), 15 TDI (in), 16 TCK (in), 17 TDO (out)
part D pins: 6 VCCIO1 (power), 8 VCCINT (power), 23 VCCIO1 (power), 39 VCCIO2 (power), 41 VCCINT (power), 57 VCCIO2 (power), 65 GND (power)
part A text: BANK 1
part B text: BANK 2

## 5M160ZE64A5N
designator IC?
MAX V 1.8V CPLD, 54 IOs, 160 Logic Elements, 64-Pin EQFP, Automotive Temperature, Speed Grade 5, Pb-Free
part A pins: 1 IO, DIFFIO_L1n (io), 2 IO (io), 3 IO, DIFFIO_L2p (io), 4 IO, DIFFIO_L2n (io), 5 IO (io), 7 IO, CLK0 (io), 9 IO, CLK1 (io), 10 IO (io), 11 IO, DIFFIO_L3p (io), 12 IO, DIFFIO_L3n (io), 13 IO (io), 18 IO, DIFFIO_B1p (io), 19 IO, DIFFIO_B1n (io), 20 IO, DIFFIO_B2p (io), 21 IO, DIFFIO_B2n (io), 22 IO, DIFFIO_B3p (io), 24 IO, DIFFIO_B3n (io), 25 IO (io), 26 IO, DIFFIO_B4p (io), 27 IO, DIFFIO_B4n (io), 28 IO, DEV_OE, DIFFIO_B5p (io), 29 IO, DEV_CLRn, DIFFIO_B5n (io), 30 IO, DIFFIO_B6p (io), 31 IO, DIFFIO_B6n (io), 32 IO, DIFFIO_B7p (io), 33 IO, DIFFIO_B7n (io), 64 IO, DIFFIO_L1p (io)
part B pins: 34 IO, DIFFIO_R4n (io), 35 IO, DIFFIO_R4p (io), 36 IO, DIFFIO_R3n (io), 37 IO, DIFFIO_R3p (io), 38 IO (io), 40 IO, CLK2 (io), 42 IO, CLK3 (io), 43 IO, DIFFIO_R2n (io), 44 IO, DIFFIO_R2p (io), 45 IO (io), 46 IO, DIFFIO_R1n (io), 47 IO, DIFFIO_R1p (io), 48 IO (io), 49 IO, DIFFIO_T6n (io), 50 IO, DIFFIO_T6p (io), 51 IO (io), 52 IO, DIFFIO_T5n (io), 53 IO, DIFFIO_T5p (io), 54 IO, DIFFIO_T4n (io), 55 IO, DIFFIO_T4p (io), 56 IO, DIFFIO_T3n (io), 58 IO, DIFFIO_T3p (io), 59 IO, DIFFIO_T2n (io), 60 IO, DIFFIO_T2p (io), 61 IO, DIFFIO_T1n (io), 62 IO (io), 63 IO, DIFFIO_T1p (io)
part C pins: 14 TMS (in), 15 TDI (in), 16 TCK (in), 17 TDO (out)
part D pins: 6 VCCIO1 (power), 8 VCCINT (power), 23 VCCIO1 (power), 39 VCCIO2 (power), 41 VCCINT (power), 57 VCCIO2 (power), 65 GND (power)
part A text: BANK 1
part B text: BANK 2

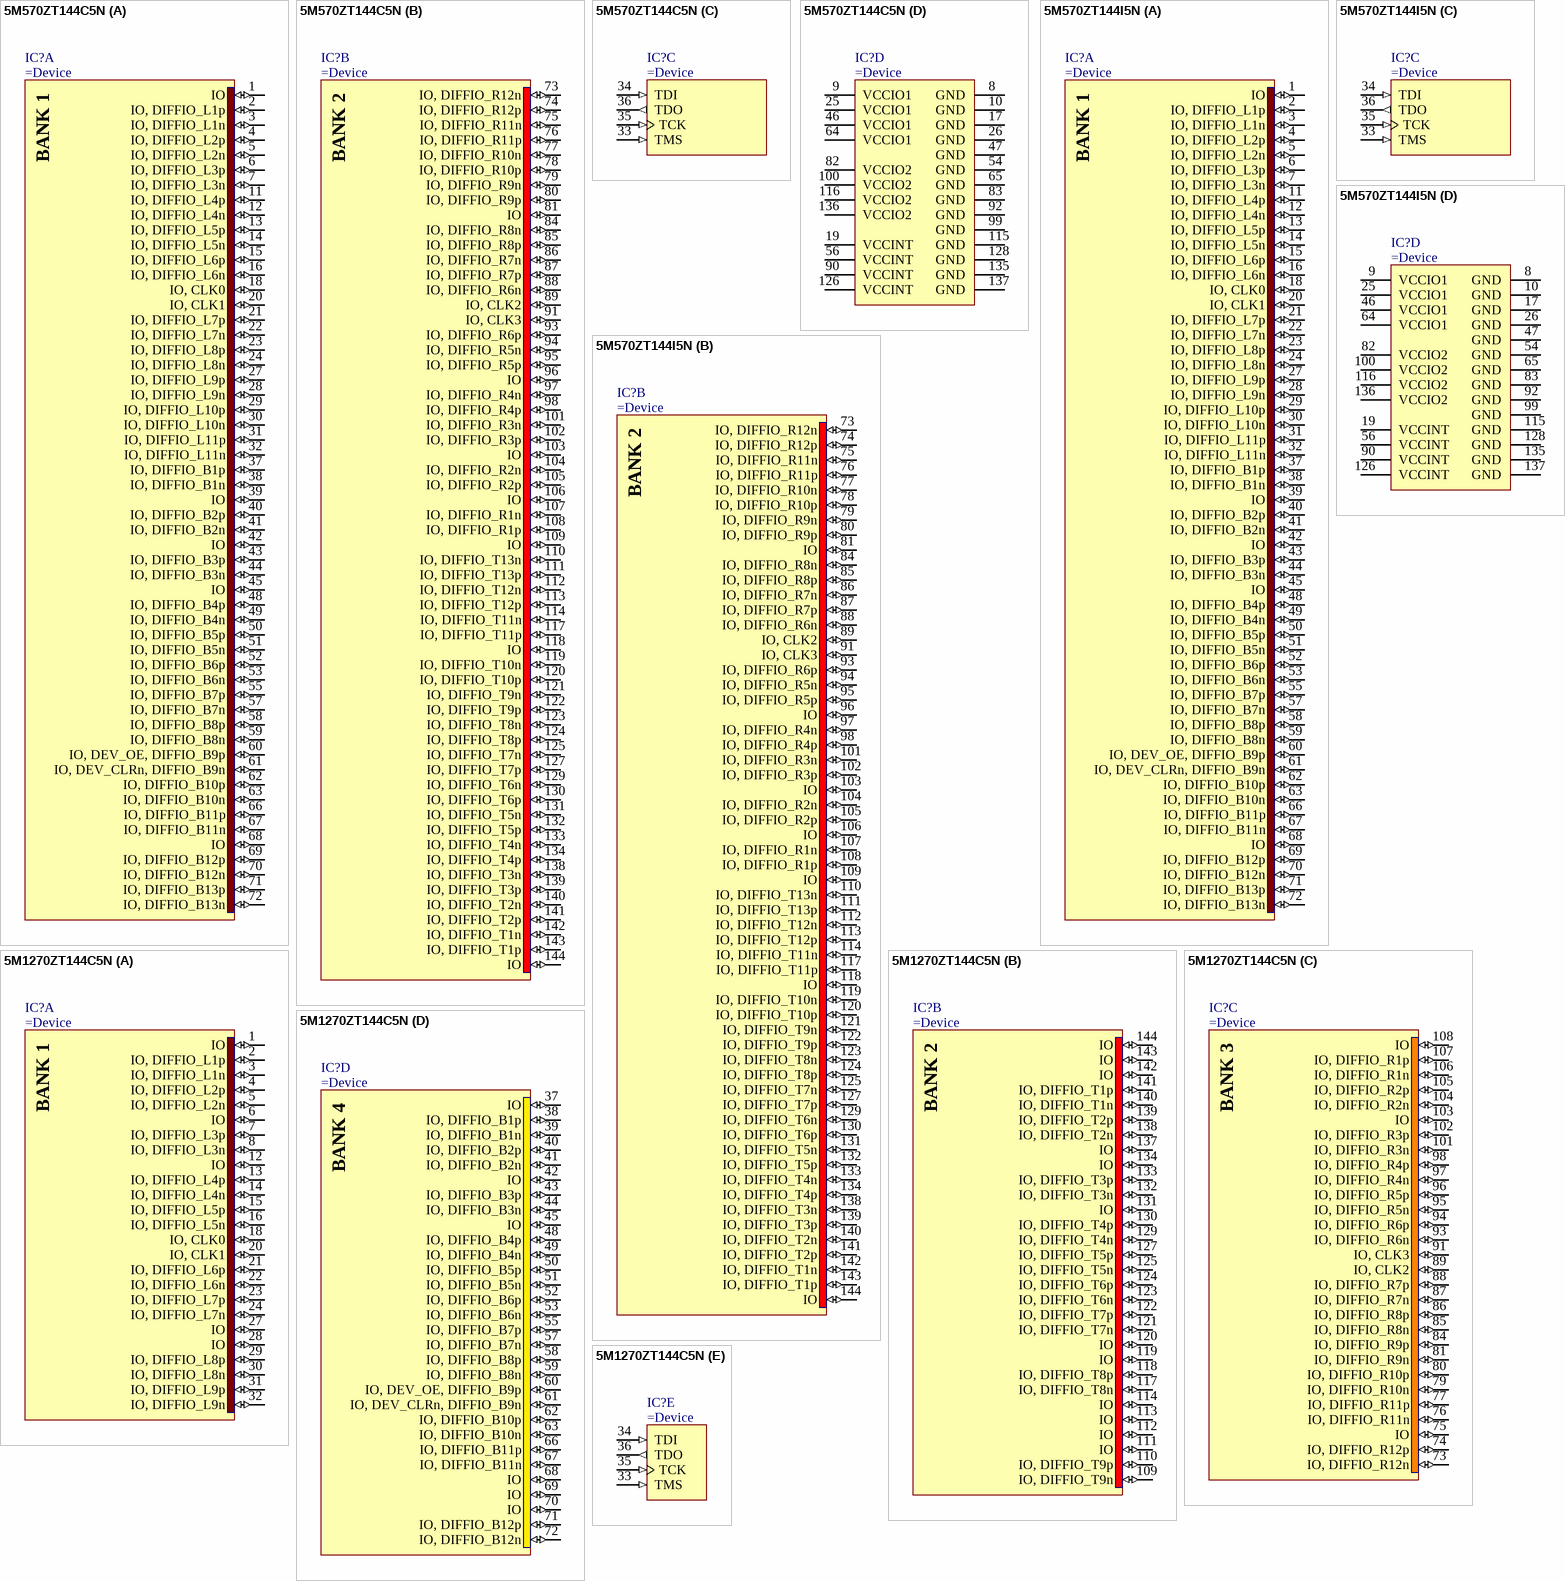
[diagram p13: symbols 5M570ZT144C5N to 5M1270ZT144C5N]

## 5M570ZT144C5N
designator IC?
MAX V 1.8V CPLD, 114 IOs, 570 Logic Elements, 144-Pin Plastic TQFP, Commercial Temperature, Speed Grade 5, Pb-Free
part A pins: 1 IO (io), 2 IO, DIFFIO_L1p (io), 3 IO, DIFFIO_L1n (io), 4 IO, DIFFIO_L2p (io), 5 IO, DIFFIO_L2n (io), 6 IO, DIFFIO_L3p (io), 7 IO, DIFFIO_L3n (io), 11 IO, DIFFIO_L4p (io), 12 IO, DIFFIO_L4n (io), 13 IO, DIFFIO_L5p (io), 14 IO, DIFFIO_L5n (io), 15 IO, DIFFIO_L6p (io), 16 IO, DIFFIO_L6n (io), 18 IO, CLK0 (io), 20 IO, CLK1 (io), 21 IO, DIFFIO_L7p (io), 22 IO, DIFFIO_L7n (io), 23 IO, DIFFIO_L8p (io), 24 IO, DIFFIO_L8n (io), 27 IO, DIFFIO_L9p (io), 28 IO, DIFFIO_L9n (io), 29 IO, DIFFIO_L10p (io), 30 IO, DIFFIO_L10n (io), 31 IO, DIFFIO_L11p (io), 32 IO, DIFFIO_L11n (io), 37 IO, DIFFIO_B1p (io), 38 IO, DIFFIO_B1n (io), 39 IO (io), 40 IO, DIFFIO_B2p (io), 41 IO, DIFFIO_B2n (io), 42 IO (io), 43 IO, DIFFIO_B3p (io), 44 IO, DIFFIO_B3n (io), 45 IO (io), 48 IO, DIFFIO_B4p (io), 49 IO, DIFFIO_B4n (io), 50 IO, DIFFIO_B5p (io), 51 IO, DIFFIO_B5n (io), 52 IO, DIFFIO_B6p (io), 53 IO, DIFFIO_B6n (io), 55 IO, DIFFIO_B7p (io), 57 IO, DIFFIO_B7n (io), 58 IO, DIFFIO_B8p (io), 59 IO, DIFFIO_B8n (io), 60 IO, DEV_OE, DIFFIO_B9p (io), 61 IO, DEV_CLRn, DIFFIO_B9n (io), 62 IO, DIFFIO_B10p (io), 63 IO, DIFFIO_B10n (io), 66 IO, DIFFIO_B11p (io), 67 IO, DIFFIO_B11n (io), 68 IO (io), 69 IO, DIFFIO_B12p (io), 70 IO, DIFFIO_B12n (io), 71 IO, DIFFIO_B13p (io), 72 IO, DIFFIO_B13n (io)
part B pins: 73 IO, DIFFIO_R12n (io), 74 IO, DIFFIO_R12p (io), 75 IO, DIFFIO_R11n (io), 76 IO, DIFFIO_R11p (io), 77 IO, DIFFIO_R10n (io), 78 IO, DIFFIO_R10p (io), 79 IO, DIFFIO_R9n (io), 80 IO, DIFFIO_R9p (io), 81 IO (io), 84 IO, DIFFIO_R8n (io), 85 IO, DIFFIO_R8p (io), 86 IO, DIFFIO_R7n (io), 87 IO, DIFFIO_R7p (io), 88 IO, DIFFIO_R6n (io), 89 IO, CLK2 (io), 91 IO, CLK3 (io), 93 IO, DIFFIO_R6p (io), 94 IO, DIFFIO_R5n (io), 95 IO, DIFFIO_R5p (io), 96 IO (io), 97 IO, DIFFIO_R4n (io), 98 IO, DIFFIO_R4p (io), 101 IO, DIFFIO_R3n (io), 102 IO, DIFFIO_R3p (io), 103 IO (io), 104 IO, DIFFIO_R2n (io), 105 IO, DIFFIO_R2p (io), 106 IO (io), 107 IO, DIFFIO_R1n (io), 108 IO, DIFFIO_R1p (io), 109 IO (io), 110 IO, DIFFIO_T13n (io), 111 IO, DIFFIO_T13p (io), 112 IO, DIFFIO_T12n (io), 113 IO, DIFFIO_T12p (io), 114 IO, DIFFIO_T11n (io), 117 IO, DIFFIO_T11p (io), 118 IO (io), 119 IO, DIFFIO_T10n (io), 120 IO, DIFFIO_T10p (io), 121 IO, DIFFIO_T9n (io), 122 IO, DIFFIO_T9p (io), 123 IO, DIFFIO_T8n (io), 124 IO, DIFFIO_T8p (io), 125 IO, DIFFIO_T7n (io), 127 IO, DIFFIO_T7p (io), 129 IO, DIFFIO_T6n (io), 130 IO, DIFFIO_T6p (io), 131 IO, DIFFIO_T5n (io), 132 IO, DIFFIO_T5p (io), 133 IO, DIFFIO_T4n (io), 134 IO, DIFFIO_T4p (io), 138 IO, DIFFIO_T3n (io), 139 IO, DIFFIO_T3p (io), 140 IO, DIFFIO_T2n (io), 141 IO, DIFFIO_T2p (io), 142 IO, DIFFIO_T1n (io), 143 IO, DIFFIO_T1p (io), 144 IO (io)
part C pins: 33 TMS (in), 34 TDI (in), 35 TCK (in), 36 TDO (out)
part D pins: 8 GND (power), 9 VCCIO1 (power), 10 GND (power), 17 GND (power), 19 VCCINT (power), 25 VCCIO1 (power), 26 GND (power), 46 VCCIO1 (power), 47 GND (power), 54 GND (power), 56 VCCINT (power), 64 VCCIO1 (power), 65 GND (power), 82 VCCIO2 (power), 83 GND (power), 90 VCCINT (power), 92 GND (power), 99 GND (power), 100 VCCIO2 (power), 115 GND (power), 116 VCCIO2 (power), 126 VCCINT (power), 128 GND (power), 135 GND (power), 136 VCCIO2 (power), 137 GND (power)
part A text: BANK 1
part B text: BANK 2

## 5M570ZT144I5N
designator IC?
MAX V 1.8V CPLD, 114 IOs, 570 Logic Elements, 144-Pin Plastic TQFP, Industrial Temperature, Speed Grade 5, Pb-Free
part A pins: 1 IO (io), 2 IO, DIFFIO_L1p (io), 3 IO, DIFFIO_L1n (io), 4 IO, DIFFIO_L2p (io), 5 IO, DIFFIO_L2n (io), 6 IO, DIFFIO_L3p (io), 7 IO, DIFFIO_L3n (io), 11 IO, DIFFIO_L4p (io), 12 IO, DIFFIO_L4n (io), 13 IO, DIFFIO_L5p (io), 14 IO, DIFFIO_L5n (io), 15 IO, DIFFIO_L6p (io), 16 IO, DIFFIO_L6n (io), 18 IO, CLK0 (io), 20 IO, CLK1 (io), 21 IO, DIFFIO_L7p (io), 22 IO, DIFFIO_L7n (io), 23 IO, DIFFIO_L8p (io), 24 IO, DIFFIO_L8n (io), 27 IO, DIFFIO_L9p (io), 28 IO, DIFFIO_L9n (io), 29 IO, DIFFIO_L10p (io), 30 IO, DIFFIO_L10n (io), 31 IO, DIFFIO_L11p (io), 32 IO, DIFFIO_L11n (io), 37 IO, DIFFIO_B1p (io), 38 IO, DIFFIO_B1n (io), 39 IO (io), 40 IO, DIFFIO_B2p (io), 41 IO, DIFFIO_B2n (io), 42 IO (io), 43 IO, DIFFIO_B3p (io), 44 IO, DIFFIO_B3n (io), 45 IO (io), 48 IO, DIFFIO_B4p (io), 49 IO, DIFFIO_B4n (io), 50 IO, DIFFIO_B5p (io), 51 IO, DIFFIO_B5n (io), 52 IO, DIFFIO_B6p (io), 53 IO, DIFFIO_B6n (io), 55 IO, DIFFIO_B7p (io), 57 IO, DIFFIO_B7n (io), 58 IO, DIFFIO_B8p (io), 59 IO, DIFFIO_B8n (io), 60 IO, DEV_OE, DIFFIO_B9p (io), 61 IO, DEV_CLRn, DIFFIO_B9n (io), 62 IO, DIFFIO_B10p (io), 63 IO, DIFFIO_B10n (io), 66 IO, DIFFIO_B11p (io), 67 IO, DIFFIO_B11n (io), 68 IO (io), 69 IO, DIFFIO_B12p (io), 70 IO, DIFFIO_B12n (io), 71 IO, DIFFIO_B13p (io), 72 IO, DIFFIO_B13n (io)
part B pins: 73 IO, DIFFIO_R12n (io), 74 IO, DIFFIO_R12p (io), 75 IO, DIFFIO_R11n (io), 76 IO, DIFFIO_R11p (io), 77 IO, DIFFIO_R10n (io), 78 IO, DIFFIO_R10p (io), 79 IO, DIFFIO_R9n (io), 80 IO, DIFFIO_R9p (io), 81 IO (io), 84 IO, DIFFIO_R8n (io), 85 IO, DIFFIO_R8p (io), 86 IO, DIFFIO_R7n (io), 87 IO, DIFFIO_R7p (io), 88 IO, DIFFIO_R6n (io), 89 IO, CLK2 (io), 91 IO, CLK3 (io), 93 IO, DIFFIO_R6p (io), 94 IO, DIFFIO_R5n (io), 95 IO, DIFFIO_R5p (io), 96 IO (io), 97 IO, DIFFIO_R4n (io), 98 IO, DIFFIO_R4p (io), 101 IO, DIFFIO_R3n (io), 102 IO, DIFFIO_R3p (io), 103 IO (io), 104 IO, DIFFIO_R2n (io), 105 IO, DIFFIO_R2p (io), 106 IO (io), 107 IO, DIFFIO_R1n (io), 108 IO, DIFFIO_R1p (io), 109 IO (io), 110 IO, DIFFIO_T13n (io), 111 IO, DIFFIO_T13p (io), 112 IO, DIFFIO_T12n (io), 113 IO, DIFFIO_T12p (io), 114 IO, DIFFIO_T11n (io), 117 IO, DIFFIO_T11p (io), 118 IO (io), 119 IO, DIFFIO_T10n (io), 120 IO, DIFFIO_T10p (io), 121 IO, DIFFIO_T9n (io), 122 IO, DIFFIO_T9p (io), 123 IO, DIFFIO_T8n (io), 124 IO, DIFFIO_T8p (io), 125 IO, DIFFIO_T7n (io), 127 IO, DIFFIO_T7p (io), 129 IO, DIFFIO_T6n (io), 130 IO, DIFFIO_T6p (io), 131 IO, DIFFIO_T5n (io), 132 IO, DIFFIO_T5p (io), 133 IO, DIFFIO_T4n (io), 134 IO, DIFFIO_T4p (io), 138 IO, DIFFIO_T3n (io), 139 IO, DIFFIO_T3p (io), 140 IO, DIFFIO_T2n (io), 141 IO, DIFFIO_T2p (io), 142 IO, DIFFIO_T1n (io), 143 IO, DIFFIO_T1p (io), 144 IO (io)
part C pins: 33 TMS (in), 34 TDI (in), 35 TCK (in), 36 TDO (out)
part D pins: 8 GND (power), 9 VCCIO1 (power), 10 GND (power), 17 GND (power), 19 VCCINT (power), 25 VCCIO1 (power), 26 GND (power), 46 VCCIO1 (power), 47 GND (power), 54 GND (power), 56 VCCINT (power), 64 VCCIO1 (power), 65 GND (power), 82 VCCIO2 (power), 83 GND (power), 90 VCCINT (power), 92 GND (power), 99 GND (power), 100 VCCIO2 (power), 115 GND (power), 116 VCCIO2 (power), 126 VCCINT (power), 128 GND (power), 135 GND (power), 136 VCCIO2 (power), 137 GND (power)
part A text: BANK 1
part B text: BANK 2

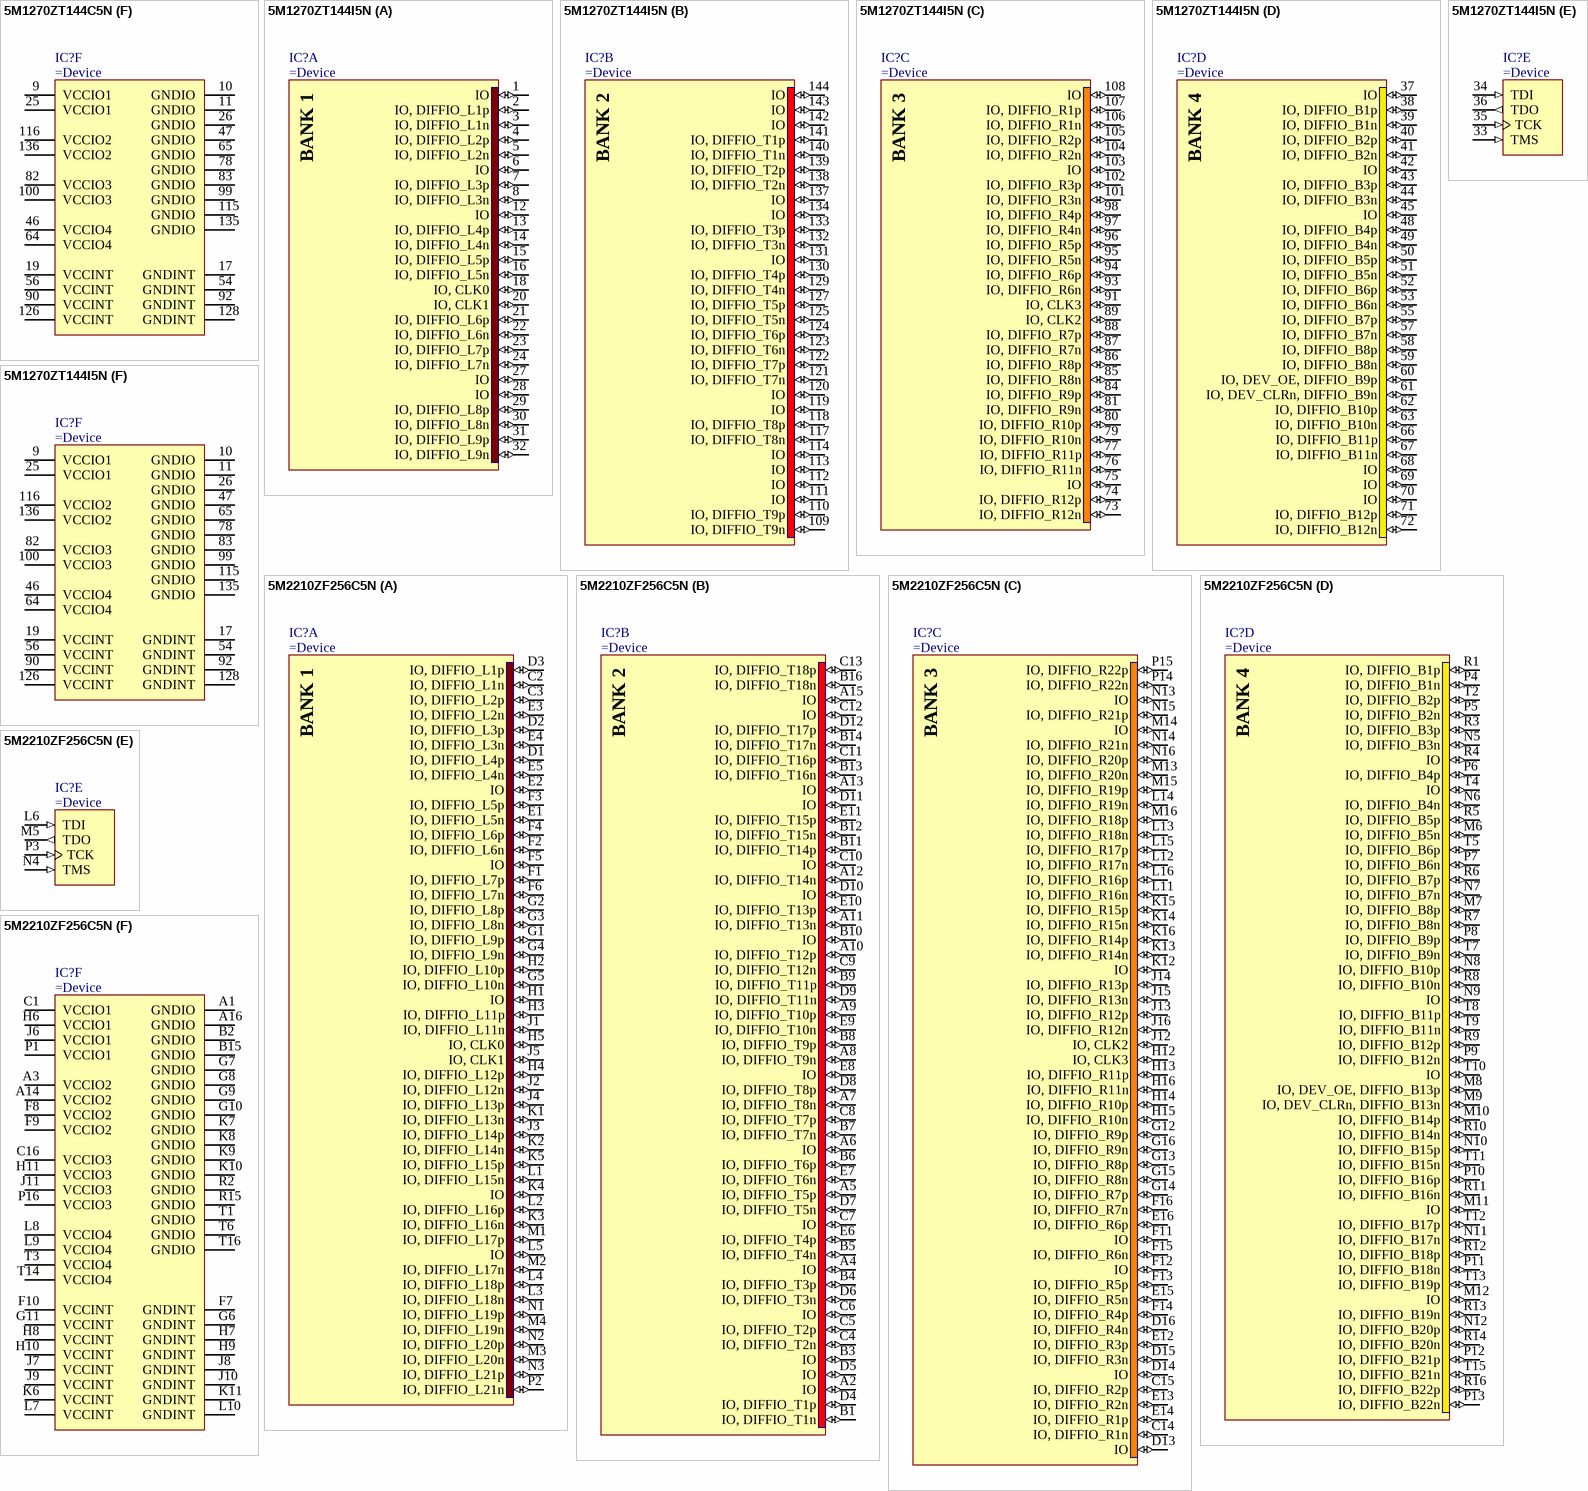
[diagram p14: symbols 5M1270ZT144C5N to 5M2210ZF256C5N]

## 5M1270ZT144C5N
designator IC?
MAX V 1.8V CPLD, 114 IOs, 1270 Logic Elements, 144-Pin TQFP, Commercial Temperature, Speed Grade 5, Pb-Free
part A pins: 1 IO (io), 2 IO, DIFFIO_L1p (io), 3 IO, DIFFIO_L1n (io), 4 IO, DIFFIO_L2p (io), 5 IO, DIFFIO_L2n (io), 6 IO (io), 7 IO, DIFFIO_L3p (io), 8 IO, DIFFIO_L3n (io), 12 IO (io), 13 IO, DIFFIO_L4p (io), 14 IO, DIFFIO_L4n (io), 15 IO, DIFFIO_L5p (io), 16 IO, DIFFIO_L5n (io), 18 IO, CLK0 (io), 20 IO, CLK1 (io), 21 IO, DIFFIO_L6p (io), 22 IO, DIFFIO_L6n (io), 23 IO, DIFFIO_L7p (io), 24 IO, DIFFIO_L7n (io), 27 IO (io), 28 IO (io), 29 IO, DIFFIO_L8p (io), 30 IO, DIFFIO_L8n (io), 31 IO, DIFFIO_L9p (io), 32 IO, DIFFIO_L9n (io)
part B pins: 109 IO, DIFFIO_T9n (io), 110 IO, DIFFIO_T9p (io), 111 IO (io), 112 IO (io), 113 IO (io), 114 IO (io), 117 IO, DIFFIO_T8n (io), 118 IO, DIFFIO_T8p (io), 119 IO (io), 120 IO (io), 121 IO, DIFFIO_T7n (io), 122 IO, DIFFIO_T7p (io), 123 IO, DIFFIO_T6n (io), 124 IO, DIFFIO_T6p (io), 125 IO, DIFFIO_T5n (io), 127 IO, DIFFIO_T5p (io), 129 IO, DIFFIO_T4n (io), 130 IO, DIFFIO_T4p (io), 131 IO (io), 132 IO, DIFFIO_T3n (io), 133 IO, DIFFIO_T3p (io), 134 IO (io), 137 IO (io), 138 IO, DIFFIO_T2n (io), 139 IO, DIFFIO_T2p (io), 140 IO, DIFFIO_T1n (io), 141 IO, DIFFIO_T1p (io), 142 IO (io), 143 IO (io), 144 IO (io)
part C pins: 73 IO, DIFFIO_R12n (io), 74 IO, DIFFIO_R12p (io), 75 IO (io), 76 IO, DIFFIO_R11n (io), 77 IO, DIFFIO_R11p (io), 79 IO, DIFFIO_R10n (io), 80 IO, DIFFIO_R10p (io), 81 IO, DIFFIO_R9n (io), 84 IO, DIFFIO_R9p (io), 85 IO, DIFFIO_R8n (io), 86 IO, DIFFIO_R8p (io), 87 IO, DIFFIO_R7n (io), 88 IO, DIFFIO_R7p (io), 89 IO, CLK2 (io), 91 IO, CLK3 (io), 93 IO, DIFFIO_R6n (io), 94 IO, DIFFIO_R6p (io), 95 IO, DIFFIO_R5n (io), 96 IO, DIFFIO_R5p (io), 97 IO, DIFFIO_R4n (io), 98 IO, DIFFIO_R4p (io), 101 IO, DIFFIO_R3n (io), 102 IO, DIFFIO_R3p (io), 103 IO (io), 104 IO, DIFFIO_R2n (io), 105 IO, DIFFIO_R2p (io), 106 IO, DIFFIO_R1n (io), 107 IO, DIFFIO_R1p (io), 108 IO (io)
part D pins: 37 IO (io), 38 IO, DIFFIO_B1p (io), 39 IO, DIFFIO_B1n (io), 40 IO, DIFFIO_B2p (io), 41 IO, DIFFIO_B2n (io), 42 IO (io), 43 IO, DIFFIO_B3p (io), 44 IO, DIFFIO_B3n (io), 45 IO (io), 48 IO, DIFFIO_B4p (io), 49 IO, DIFFIO_B4n (io), 50 IO, DIFFIO_B5p (io), 51 IO, DIFFIO_B5n (io), 52 IO, DIFFIO_B6p (io), 53 IO, DIFFIO_B6n (io), 55 IO, DIFFIO_B7p (io), 57 IO, DIFFIO_B7n (io), 58 IO, DIFFIO_B8p (io), 59 IO, DIFFIO_B8n (io), 60 IO, DEV_OE, DIFFIO_B9p (io), 61 IO, DEV_CLRn, DIFFIO_B9n (io), 62 IO, DIFFIO_B10p (io), 63 IO, DIFFIO_B10n (io), 66 IO, DIFFIO_B11p (io), 67 IO, DIFFIO_B11n (io), 68 IO (io), 69 IO (io), 70 IO (io), 71 IO, DIFFIO_B12p (io), 72 IO, DIFFIO_B12n (io)
part E pins: 33 TMS (in), 34 TDI (in), 35 TCK (in), 36 TDO (out)
part F pins: 9 VCCIO1 (power), 10 GNDIO (power), 11 GNDIO (power), 17 GNDINT (power), 19 VCCINT (power), 25 VCCIO1 (power), 26 GNDIO (power), 46 VCCIO4 (power), 47 GNDIO (power), 54 GNDINT (power), 56 VCCINT (power), 64 VCCIO4 (power), 65 GNDIO (power), 78 GNDIO (power), 82 VCCIO3 (power), 83 GNDIO (power), 90 VCCINT (power), 92 GNDINT (power), 99 GNDIO (power), 100 VCCIO3 (power), 115 GNDIO (power), 116 VCCIO2 (power), 126 VCCINT (power), 128 GNDINT (power), 135 GNDIO (power), 136 VCCIO2 (power)
part A text: BANK 1
part B text: BANK 2
part C text: BANK 3
part D text: BANK 4

## 5M1270ZT144I5N
designator IC?
MAX V 1.8V CPLD, 114 IOs, 1270 Logic Elements, 144-Pin TQFP, Industrial Temperature, Speed Grade 5, Pb-Free
part A pins: 1 IO (io), 2 IO, DIFFIO_L1p (io), 3 IO, DIFFIO_L1n (io), 4 IO, DIFFIO_L2p (io), 5 IO, DIFFIO_L2n (io), 6 IO (io), 7 IO, DIFFIO_L3p (io), 8 IO, DIFFIO_L3n (io), 12 IO (io), 13 IO, DIFFIO_L4p (io), 14 IO, DIFFIO_L4n (io), 15 IO, DIFFIO_L5p (io), 16 IO, DIFFIO_L5n (io), 18 IO, CLK0 (io), 20 IO, CLK1 (io), 21 IO, DIFFIO_L6p (io), 22 IO, DIFFIO_L6n (io), 23 IO, DIFFIO_L7p (io), 24 IO, DIFFIO_L7n (io), 27 IO (io), 28 IO (io), 29 IO, DIFFIO_L8p (io), 30 IO, DIFFIO_L8n (io), 31 IO, DIFFIO_L9p (io), 32 IO, DIFFIO_L9n (io)
part B pins: 109 IO, DIFFIO_T9n (io), 110 IO, DIFFIO_T9p (io), 111 IO (io), 112 IO (io), 113 IO (io), 114 IO (io), 117 IO, DIFFIO_T8n (io), 118 IO, DIFFIO_T8p (io), 119 IO (io), 120 IO (io), 121 IO, DIFFIO_T7n (io), 122 IO, DIFFIO_T7p (io), 123 IO, DIFFIO_T6n (io), 124 IO, DIFFIO_T6p (io), 125 IO, DIFFIO_T5n (io), 127 IO, DIFFIO_T5p (io), 129 IO, DIFFIO_T4n (io), 130 IO, DIFFIO_T4p (io), 131 IO (io), 132 IO, DIFFIO_T3n (io), 133 IO, DIFFIO_T3p (io), 134 IO (io), 137 IO (io), 138 IO, DIFFIO_T2n (io), 139 IO, DIFFIO_T2p (io), 140 IO, DIFFIO_T1n (io), 141 IO, DIFFIO_T1p (io), 142 IO (io), 143 IO (io), 144 IO (io)
part C pins: 73 IO, DIFFIO_R12n (io), 74 IO, DIFFIO_R12p (io), 75 IO (io), 76 IO, DIFFIO_R11n (io), 77 IO, DIFFIO_R11p (io), 79 IO, DIFFIO_R10n (io), 80 IO, DIFFIO_R10p (io), 81 IO, DIFFIO_R9n (io), 84 IO, DIFFIO_R9p (io), 85 IO, DIFFIO_R8n (io), 86 IO, DIFFIO_R8p (io), 87 IO, DIFFIO_R7n (io), 88 IO, DIFFIO_R7p (io), 89 IO, CLK2 (io), 91 IO, CLK3 (io), 93 IO, DIFFIO_R6n (io), 94 IO, DIFFIO_R6p (io), 95 IO, DIFFIO_R5n (io), 96 IO, DIFFIO_R5p (io), 97 IO, DIFFIO_R4n (io), 98 IO, DIFFIO_R4p (io), 101 IO, DIFFIO_R3n (io), 102 IO, DIFFIO_R3p (io), 103 IO (io), 104 IO, DIFFIO_R2n (io), 105 IO, DIFFIO_R2p (io), 106 IO, DIFFIO_R1n (io), 107 IO, DIFFIO_R1p (io), 108 IO (io)
part D pins: 37 IO (io), 38 IO, DIFFIO_B1p (io), 39 IO, DIFFIO_B1n (io), 40 IO, DIFFIO_B2p (io), 41 IO, DIFFIO_B2n (io), 42 IO (io), 43 IO, DIFFIO_B3p (io), 44 IO, DIFFIO_B3n (io), 45 IO (io), 48 IO, DIFFIO_B4p (io), 49 IO, DIFFIO_B4n (io), 50 IO, DIFFIO_B5p (io), 51 IO, DIFFIO_B5n (io), 52 IO, DIFFIO_B6p (io), 53 IO, DIFFIO_B6n (io), 55 IO, DIFFIO_B7p (io), 57 IO, DIFFIO_B7n (io), 58 IO, DIFFIO_B8p (io), 59 IO, DIFFIO_B8n (io), 60 IO, DEV_OE, DIFFIO_B9p (io), 61 IO, DEV_CLRn, DIFFIO_B9n (io), 62 IO, DIFFIO_B10p (io), 63 IO, DIFFIO_B10n (io), 66 IO, DIFFIO_B11p (io), 67 IO, DIFFIO_B11n (io), 68 IO (io), 69 IO (io), 70 IO (io), 71 IO, DIFFIO_B12p (io), 72 IO, DIFFIO_B12n (io)
part E pins: 33 TMS (in), 34 TDI (in), 35 TCK (in), 36 TDO (out)
part F pins: 9 VCCIO1 (power), 10 GNDIO (power), 11 GNDIO (power), 17 GNDINT (power), 19 VCCINT (power), 25 VCCIO1 (power), 26 GNDIO (power), 46 VCCIO4 (power), 47 GNDIO (power), 54 GNDINT (power), 56 VCCINT (power), 64 VCCIO4 (power), 65 GNDIO (power), 78 GNDIO (power), 82 VCCIO3 (power), 83 GNDIO (power), 90 VCCINT (power), 92 GNDINT (power), 99 GNDIO (power), 100 VCCIO3 (power), 115 GNDIO (power), 116 VCCIO2 (power), 126 VCCINT (power), 128 GNDINT (power), 135 GNDIO (power), 136 VCCIO2 (power)
part A text: BANK 1
part B text: BANK 2
part C text: BANK 3
part D text: BANK 4

## 5M2210ZF256C5N
designator IC?
MAX V 1.8V CPLD, 203 IOs, 2210 Logic Elements, 256-Pin FBGA, Commercial Temperature, Speed Grade 5, Pb-Free
part A pins: C2 IO, DIFFIO_L1n (io), C3 IO, DIFFIO_L2p (io), D1 IO, DIFFIO_L4p (io), D2 IO, DIFFIO_L3p (io), D3 IO, DIFFIO_L1p (io), E1 IO, DIFFIO_L5n (io), E2 IO (io), E3 IO, DIFFIO_L2n (io), E4 IO, DIFFIO_L3n (io), E5 IO, DIFFIO_L4n (io), F1 IO, DIFFIO_L7p (io), F2 IO, DIFFIO_L6n (io), F3 IO, DIFFIO_L5p (io), F4 IO, DIFFIO_L6p (io), F5 IO (io), F6 IO, DIFFIO_L7n (io), G1 IO, DIFFIO_L9p (io), G2 IO, DIFFIO_L8p (io), G3 IO, DIFFIO_L8n (io), G4 IO, DIFFIO_L9n (io), G5 IO, DIFFIO_L10n (io), H1 IO (io), H2 IO, DIFFIO_L10p (io), H3 IO, DIFFIO_L11p (io), H4 IO, DIFFIO_L12p (io), H5 IO, CLK0 (io), J1 IO, DIFFIO_L11n (io), J2 IO, DIFFIO_L12n (io), J3 IO, DIFFIO_L14p (io), J4 IO, DIFFIO_L13p (io), J5 IO, CLK1 (io), K1 IO, DIFFIO_L13n (io), K2 IO, DIFFIO_L14n (io), K3 IO, DIFFIO_L16n (io), K4 IO (io), K5 IO, DIFFIO_L15p (io), L1 IO, DIFFIO_L15n (io), L2 IO, DIFFIO_L16p (io), L3 IO, DIFFIO_L18n (io), L4 IO, DIFFIO_L18p (io), L5 IO (io), M1 IO, DIFFIO_L17p (io), M2 IO, DIFFIO_L17n (io), M3 IO, DIFFIO_L20n (io), M4 IO, DIFFIO_L19n (io), N1 IO, DIFFIO_L19p (io), N2 IO, DIFFIO_L20p (io), N3 IO, DIFFIO_L21p (io), P2 IO, DIFFIO_L21n (io)
part B pins: A2 IO (io), A4 IO (io), A5 IO, DIFFIO_T5p (io), A6 IO (io), A7 IO, DIFFIO_T8n (io), A8 IO, DIFFIO_T9n (io), A9 IO, DIFFIO_T10p (io), A10 IO, DIFFIO_T12p (io), A11 IO, DIFFIO_T13n (io), A12 IO, DIFFIO_T14n (io), A13 IO (io), A15 IO (io), B1 IO, DIFFIO_T1n (io), B3 IO (io), B4 IO, DIFFIO_T3p (io), B5 IO, DIFFIO_T4n (io), B6 IO, DIFFIO_T6p (io), B7 IO, DIFFIO_T7n (io), B8 IO, DIFFIO_T9p (io), B9 IO, DIFFIO_T11p (io), B10 IO (io), B11 IO, DIFFIO_T14p (io), B12 IO, DIFFIO_T15n (io), B13 IO, DIFFIO_T16n (io), B14 IO, DIFFIO_T17n (io), B16 IO, DIFFIO_T18n (io), C4 IO, DIFFIO_T2n (io), C5 IO, DIFFIO_T2p (io), C6 IO (io), C7 IO (io), C8 IO, DIFFIO_T7p (io), C9 IO, DIFFIO_T12n (io), C10 IO (io), C11 IO, DIFFIO_T16p (io), C12 IO (io), C13 IO, DIFFIO_T18p (io), D4 IO, DIFFIO_T1p (io), D5 IO (io), D6 IO, DIFFIO_T3n (io), D7 IO, DIFFIO_T5n (io), D8 IO, DIFFIO_T8p (io), D9 IO, DIFFIO_T11n (io), D10 IO (io), D11 IO (io), D12 IO, DIFFIO_T17p (io), E6 IO, DIFFIO_T4p (io), E7 IO, DIFFIO_T6n (io), E8 IO (io), E9 IO, DIFFIO_T10n (io), E10 IO, DIFFIO_T13p (io), E11 IO, DIFFIO_T15p (io)
part C pins: C14 IO, DIFFIO_R1n (io), C15 IO, DIFFIO_R2p (io), D13 IO (io), D14 IO (io), D15 IO, DIFFIO_R3n (io), D16 IO, DIFFIO_R4n (io), E12 IO, DIFFIO_R3p (io), E13 IO, DIFFIO_R2n (io), E14 IO, DIFFIO_R1p (io), E15 IO, DIFFIO_R5n (io), E16 IO, DIFFIO_R6p (io), F11 IO (io), F12 IO (io), F13 IO, DIFFIO_R5p (io), F14 IO, DIFFIO_R4p (io), F15 IO, DIFFIO_R6n (io), F16 IO, DIFFIO_R7n (io), G12 IO, DIFFIO_R9p (io), G13 IO, DIFFIO_R8p (io), G14 IO, DIFFIO_R7p (io), G15 IO, DIFFIO_R8n (io), G16 IO, DIFFIO_R9n (io), H12 IO, CLK3 (io), H13 IO, DIFFIO_R11p (io), H14 IO, DIFFIO_R10p (io), H15 IO, DIFFIO_R10n (io), H16 IO, DIFFIO_R11n (io), J12 IO, CLK2 (io), J13 IO, DIFFIO_R12p (io), J14 IO, DIFFIO_R13p (io), J15 IO, DIFFIO_R13n (io), J16 IO, DIFFIO_R12n (io), K12 IO (io), K13 IO, DIFFIO_R14n (io), K14 IO, DIFFIO_R15n (io), K15 IO, DIFFIO_R15p (io), K16 IO, DIFFIO_R14p (io), L11 IO, DIFFIO_R16n (io), L12 IO, DIFFIO_R17n (io), L13 IO, DIFFIO_R18n (io), L14 IO, DIFFIO_R19n (io), L15 IO, DIFFIO_R17p (io), L16 IO, DIFFIO_R16p (io), M13 IO, DIFFIO_R20n (io), M14 IO (io), M15 IO, DIFFIO_R19p (io), M16 IO, DIFFIO_R18p (io), N13 IO (io), N14 IO, DIFFIO_R21n (io), N15 IO, DIFFIO_R21p (io), N16 IO, DIFFIO_R20p (io), P14 IO, DIFFIO_R22n (io), P15 IO, DIFFIO_R22p (io)
part D pins: M6 IO, DIFFIO_B5n (io), M7 IO, DIFFIO_B8p (io), M8 IO, DEV_OE, DIFFIO_B13p (io), M9 IO, DEV_CLRn, DIFFIO_B13n (io), M10 IO, DIFFIO_B14p (io), M11 IO (io), M12 IO (io), N5 IO, DIFFIO_B3n (io), N6 IO, DIFFIO_B4n (io), N7 IO, DIFFIO_B7n (io), N8 IO, DIFFIO_B10p (io), N9 IO (io), N10 IO, DIFFIO_B15p (io), N11 IO, DIFFIO_B17n (io), N12 IO, DIFFIO_B20p (io), P4 IO, DIFFIO_B1n (io), P5 IO, DIFFIO_B2n (io), P6 IO, DIFFIO_B4p (io), P7 IO, DIFFIO_B6n (io), P8 IO, DIFFIO_B9p (io), P9 IO, DIFFIO_B12n (io), P10 IO, DIFFIO_B16p (io), P11 IO, DIFFIO_B18n (io), P12 IO, DIFFIO_B21p (io), P13 IO, DIFFIO_B22n (io), R1 IO, DIFFIO_B1p (io), R3 IO, DIFFIO_B3p (io), R4 IO (io), R5 IO, DIFFIO_B5p (io), R6 IO, DIFFIO_B7p (io), R7 IO, DIFFIO_B8n (io), R8 IO, DIFFIO_B10n (io), R9 IO, DIFFIO_B12p (io), R10 IO, DIFFIO_B14n (io), R11 IO, DIFFIO_B16n (io), R12 IO, DIFFIO_B18p (io), R13 IO, DIFFIO_B19n (io), R14 IO, DIFFIO_B20n (io), R16 IO, DIFFIO_B22p (io), T2 IO, DIFFIO_B2p (io), T4 IO (io), T5 IO, DIFFIO_B6p (io), T7 IO, DIFFIO_B9n (io), T8 IO, DIFFIO_B11p (io), T9 IO, DIFFIO_B11n (io), T10 IO (io), T11 IO, DIFFIO_B15n (io), T12 IO, DIFFIO_B17p (io), T13 IO, DIFFIO_B19p (io), T15 IO, DIFFIO_B21n (io)
part E pins: L6 TDI (in), M5 TDO (out), N4 TMS (in), P3 TCK (in)
part F pins: A1 GNDIO (power), A3 VCCIO2 (power), A14 VCCIO2 (power), A16 GNDIO (power), B2 GNDIO (power), B15 GNDIO (power), C1 VCCIO1 (power), C16 VCCIO3 (power), F7 GNDINT (power), F8 VCCIO2 (power), F9 VCCIO2 (power), F10 VCCINT (power), G6 GNDINT (power), G7 GNDIO (power), G8 GNDIO (power), G9 GNDIO (power), G10 GNDIO (power), G11 VCCINT (power), H6 VCCIO1 (power), H7 GNDINT (power), H8 VCCINT (power), H9 GNDINT (power), H10 VCCINT (power), H11 VCCIO3 (power), J6 VCCIO1 (power), J7 VCCINT (power), J8 GNDINT (power), J9 VCCINT (power), J10 GNDINT (power), J11 VCCIO3 (power), K6 VCCINT (power), K7 GNDIO (power), K8 GNDIO (power), K9 GNDIO (power), K10 GNDIO (power), K11 GNDINT (power), L7 VCCINT (power), L8 VCCIO4 (power), L9 VCCIO4 (power), L10 GNDINT (power), P1 VCCIO1 (power), P16 VCCIO3 (power), R2 GNDIO (power), R15 GNDIO (power), T1 GNDIO (power), T3 VCCIO4 (power), T6 GNDIO (power), T14 VCCIO4 (power), T16 GNDIO (power)
part A text: BANK 1
part B text: BANK 2
part C text: BANK 3
part D text: BANK 4

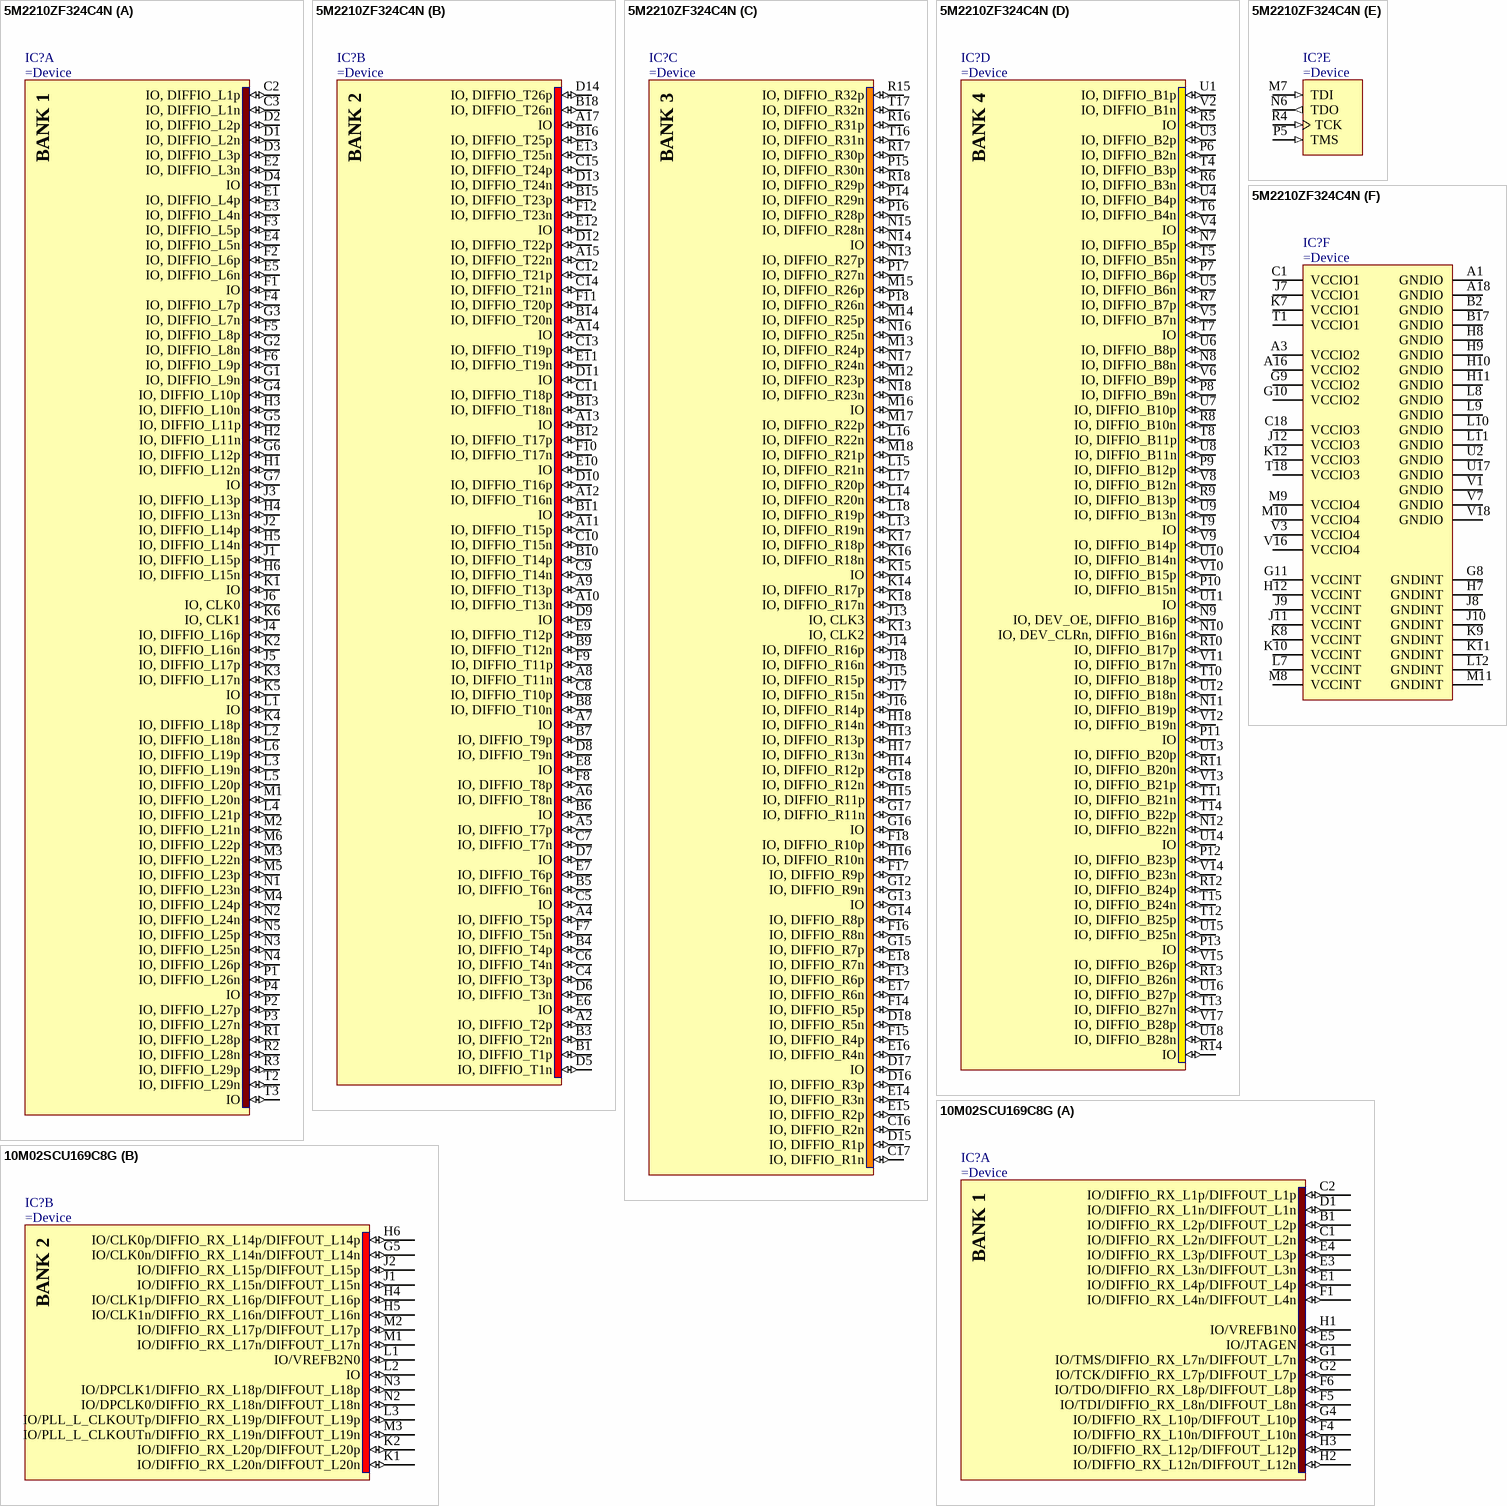
[diagram p15: symbols 5M2210ZF324C4N to 10M02SCU169C8G]